# Altium schematic symbol library Connector.SchLib: 400 symbols (part 4 of 5)
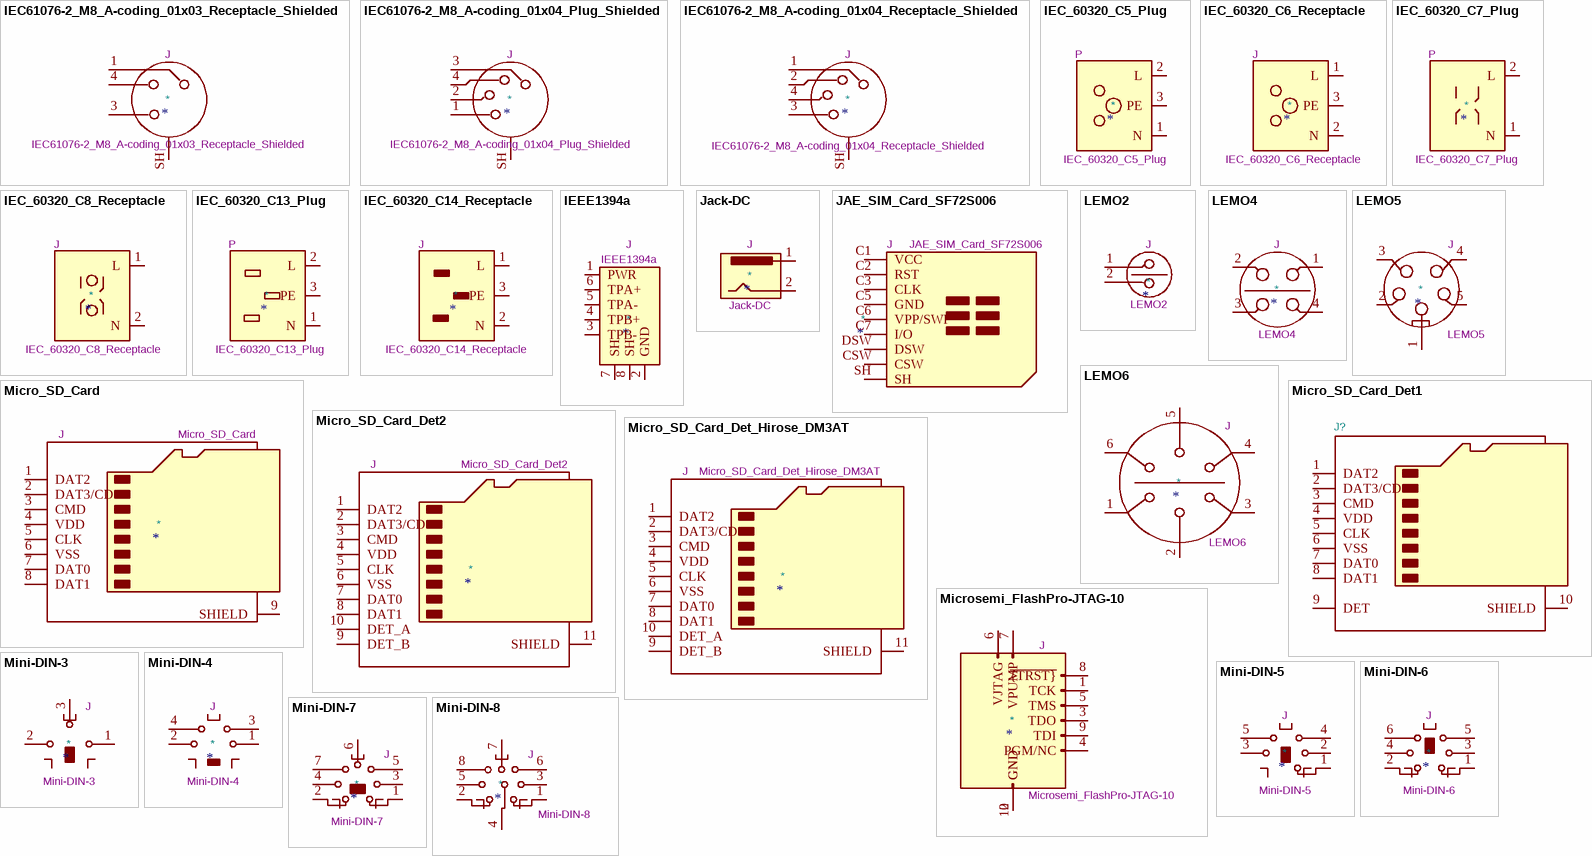
[diagram p20: symbols IEC61076-2_M8_A-coding_01x03_Receptacle_Shielded to Mini-DIN-8]

## Mini-DIN-3
designator *  value Mini-DIN-3  Reference: J
3-pin Mini-DIN connector; ki_fp_filters: MINI?DIN*; Datasheet: http://www.assmann-wsw.com/fileadmin/catalogue/10_MiniDIN_rev4-0.pdf; Description_: 3-pin Mini-DIN connector; ki_keywords: Mini-DIN
pins: 1, 2, 3

## Mini-DIN-4
designator *  value Mini-DIN-4  Reference: J
4-pin Mini-DIN connector; ki_fp_filters: MINI?DIN*; Datasheet: http://service.powerdynamics.com/ec/Catalog17/Section%2011.pdf; Description_: 4-pin Mini-DIN connector; ki_keywords: Mini-DIN
pins: 1, 2, 3, 4

## Mini-DIN-5
designator *  value Mini-DIN-5  Reference: J
5-pin Mini-DIN connector; ki_fp_filters: MINI?DIN*; Datasheet: http://service.powerdynamics.com/ec/Catalog17/Section%2011.pdf; Description_: 5-pin Mini-DIN connector; ki_keywords: Mini-DIN
pins: 1, 2, 3, 4, 5

## Mini-DIN-6
designator *  value Mini-DIN-6  Reference: J
6-pin Mini-DIN connector; ki_fp_filters: MINI?DIN*; Datasheet: http://service.powerdynamics.com/ec/Catalog17/Section%2011.pdf; Description_: 6-pin Mini-DIN connector; ki_keywords: Mini-DIN
pins: 1, 2, 3, 4, 5, 6

## Mini-DIN-7
designator *  value Mini-DIN-7  Reference: J
7-pin Mini-DIN connector; ki_fp_filters: MINI?DIN*; Datasheet: http://service.powerdynamics.com/ec/Catalog17/Section%2011.pdf; Description_: 7-pin Mini-DIN connector; ki_keywords: Mini-DIN
pins: 1, 2, 3, 4, 5, 6, 7

## Mini-DIN-8
designator *  value Mini-DIN-8  Reference: J
8-pin Mini-DIN connector; ki_fp_filters: MINI?DIN*; Datasheet: http://service.powerdynamics.com/ec/Catalog17/Section%2011.pdf; Description_: 8-pin Mini-DIN connector; ki_keywords: Mini-DIN
pins: 1, 2, 3, 4, 5, 6, 7, 8

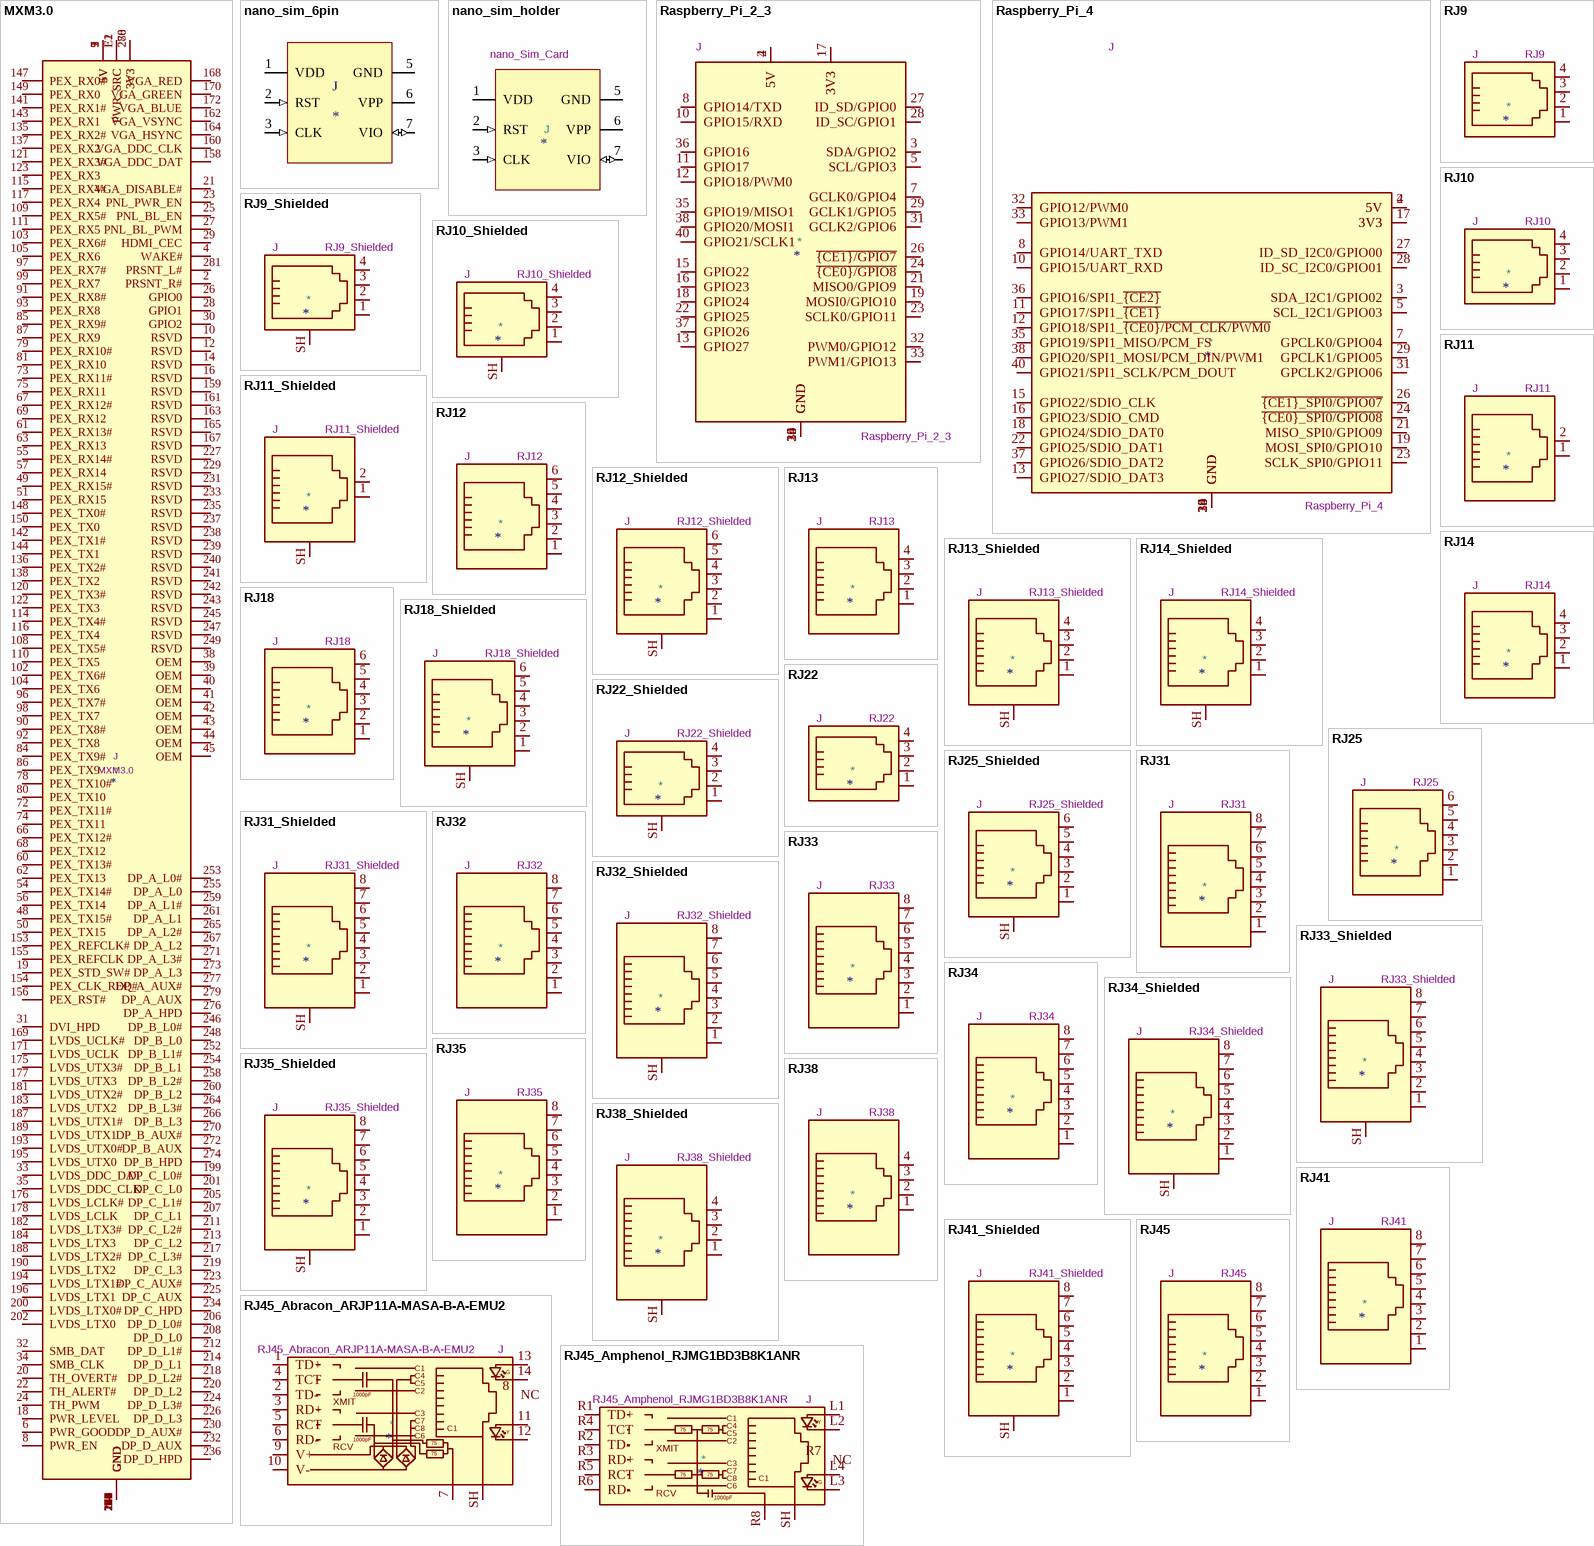
[diagram p12: symbols MXM3.0 to RJ45_Amphenol_RJMG1BD3B8K1ANR]

## MXM3.0
designator *  value MXM3.0  Reference: J
MXM3.0 connector; ki_keywords: MXM connector; ki_fp_filters: *MM70*; Datasheet: ~; Description_: MXM3.0 connector
pins: 1 5V, 2 PRSNT_R#, 3 5V, 4 WAKE#, 5 5V, 6 PWR_GOOD, 7 5V, 8 PWR_EN, 9 5V, 10 RSVD, 11 GND, 12 RSVD, 13 GND, 14 RSVD, 15 GND, 16 RSVD, 17 GND, 18 PWR_LEVEL, 19 PEX_STD_SW#, 20 TH_OVERT#, 21 VGA_DISABLE#, 22 TH_ALERT#, 23 PNL_PWR_EN, 24 TH_PWM, 25 PNL_BL_EN, 26 GPIO0, 27 PNL_BL_PWM, 28 GPIO1, 29 HDMI_CEC, 30 GPIO2, 31 DVI_HPD, 32 SMB_DAT, 33 LVDS_DDC_DAT, 34 SMB_CLK, 35 LVDS_DDC_CLK, 36 GND, 37 GND, 38 OEM, 39 OEM, 40 OEM, 41 OEM, 42 OEM, 43 OEM, 44 OEM, 45 OEM, 46 GND, 47 GND, 48 PEX_TX15#, 49 PEX_RX15#, 50 PEX_TX15, 51 PEX_RX15, 52 GND, 53 GND, 54 PEX_TX14#, 55 PEX_RX14#, 56 PEX_TX14, 57 PEX_RX14, 58 GND, 59 GND, 60 PEX_TX13#, 61 PEX_RX13#, 62 PEX_TX13, 63 PEX_RX13, 64 GND, 65 GND, 66 PEX_TX12#, 67 PEX_RX12#, 68 PEX_TX12, 69 PEX_RX12, 70 GND, 71 GND, 72 PEX_TX11#, 73 PEX_RX11#, 74 PEX_TX11, 75 PEX_RX11, 76 GND, 77 GND, 78 PEX_TX10#, 79 PEX_RX10#, 80 PEX_TX10, 81 PEX_RX10, 82 GND, 83 GND, 84 PEX_TX9#, 85 PEX_RX9#, 86 PEX_TX9, 87 PEX_RX9, 88 GND, 89 GND, 90 PEX_TX8#, 91 PEX_RX8#, 92 PEX_TX8, 93 PEX_RX8, 94 GND, 95 GND, 96 PEX_TX7#, 97 PEX_RX7#, 98 PEX_TX7, 99 PEX_RX7, 100 GND, 101 GND, 102 PEX_TX6#, 103 PEX_RX6#, 104 PEX_TX6, 105 PEX_RX6, 106 GND, 107 GND, 108 PEX_TX5#, 109 PEX_RX5#, 110 PEX_TX5, 111 PEX_RX5, 112 GND, 113 GND, 114 PEX_TX4#, 115 PEX_RX4#, 116 PEX_TX4, 117 PEX_RX4, 118 GND, 119 GND, 120 PEX_TX3#, 121 PEX_RX3#, 122 PEX_TX3, 123 PEX_RX3, 124 GND, 125 GND, 133 GND, 134 GND, 135 PEX_RX2#, 136 PEX_TX2#, 137 PEX_RX2, 138 PEX_TX2, 139 GND, 140 GND, 141 PEX_RX1#, 142 PEX_TX1#, 143 PEX_RX1, 144 PEX_TX1, 145 GND, 146 GND, 147 PEX_RX0#, 148 PEX_TX0#, 149 PEX_RX0, 150 PEX_TX0, 151 GND, 152 GND, 153 PEX_REFCLK#, 154 PEX_CLK_REQ#, 155 PEX_REFCLK, 156 PEX_RST#, 157 GND, 158 VGA_DDC_DAT, 159 RSVD, 160 VGA_DDC_CLK, 161 RSVD, 162 VGA_VSYNC, 163 RSVD, 164 VGA_HSYNC, 165 RSVD, 166 GND, 167 RSVD, 168 VGA_RED, 169 LVDS_UCLK#, 170 VGA_GREEN, 171 LVDS_UCLK, 172 VGA_BLUE, 173 GND, 174 GND, 175 LVDS_UTX3#, 176 LVDS_LCLK#, 177 LVDS_UTX3, 178 LVDS_LCLK, 179 GND, 180 GND, 181 LVDS_UTX2#, 182 LVDS_LTX3#, 183 LVDS_UTX2, 184 LVDS_LTX3, 185 GND, 186 GND, 187 LVDS_UTX1#, 188 LVDS_LTX2#, 189 LVDS_UTX1, 190 LVDS_LTX2, 191 GND, 192 GND, 193 LVDS_UTX0#, 194 LVDS_LTX1#, 195 LVDS_UTX0, 196 LVDS_LTX1, 197 GND, 198 GND, 199 DP_C_L0#, 200 LVDS_LTX0#, 201 DP_C_L0, 202 LVDS_LTX0, 203 GND, 204 GND, 205 DP_C_L1#, 206 DP_D_L0#, 207 DP_C_L1, 208 DP_D_L0, 209 GND, 210 GND, 211 DP_C_L2#, 212 DP_D_L1#, 213 DP_C_L2, 214 DP_D_L1, 215 GND, 216 GND, 217 DP_C_L3#, 218 DP_D_L2#, 219 DP_C_L3, 220 DP_D_L2, 221 GND, 222 GND, 223 DP_C_AUX#, 224 DP_D_L3#, 225 DP_C_AUX, 226 DP_D_L3, 227 RSVD, 228 GND, 229 RSVD, 230 DP_D_AUX#, 231 RSVD, 232 DP_D_AUX, 233 RSVD, 234 DP_C_HPD, 235 RSVD, 236 DP_D_HPD, 237 RSVD, 238 RSVD, 239 RSVD, 240 RSVD, 241 RSVD, 242 RSVD, 243 RSVD, 244 GND, 245 RSVD, 246 DP_B_L0#, 247 RSVD, 248 DP_B_L0, 249 RSVD, 250 GND, 251 GND, 252 DP_B_L1#, 253 DP_A_L0#, 254 DP_B_L1, 255 DP_A_L0, 256 GND, 257 GND, 258 DP_B_L2#, 259 DP_A_L1#, 260 DP_B_L2, 261 DP_A_L1, 262 GND, 263 GND, 264 DP_B_L3#, 265 DP_A_L2#, 266 DP_B_L3, 267 DP_A_L2, 268 GND, 269 GND, 270 DP_B_AUX#, 271 DP_A_L3#, 272 DP_B_AUX, 273 DP_A_L3, 274 DP_B_HPD, 275 GND, 276 DP_A_HPD, 277 DP_A_AUX#, 278 3V3, 279 DP_A_AUX, 280 3V3, 281 PRSNT_L#, E1 PWR_SRC, E2 PWR_SRC, E3 GND, E4 GND

## nano_sim_6pin
designator J
footprint Model Name (Footprint not found)
pins: 1 VDD (power), 2 RST (in), 3 CLK (in), 5 GND (power), 6 VPP, 7 VIO (io)

## nano_sim_holder
designator J  value nano_Sim_Card
nano sim Card Socket; Description_: Micro SD Card Socket; ki_keywords: connector SD microsd; ki_fp_filters: microSD*; Reference: J; Datasheet: https://www.we-online.com/components/products/datasheet/693072010801.pdf
footprint KLS1-SIM-076_NANO_Push
pins: 1 VDD (power), 2 RST (in), 3 CLK (in), 5 GND (power), 6 VPP, 7 VIO (io)

## Raspberry_Pi_2_3
designator *  value Raspberry_Pi_2_3  Reference: J
expansion header for Raspberry Pi 2 & 3; ki_keywords: raspberrypi gpio; ki_fp_filters: PinHeader*2x20*P2.54mm*Vertical* PinSocket*2x20*P2.54mm*Vertical*; Datasheet: https://www.raspberrypi.org/documentation/hardware/raspberrypi/schematics/rpi_SCH_3bplus_1p0_reduced.pdf; Description_: expansion header for Raspberry Pi 2 & 3
pins: 1 3V3, 2 5V, 3 SDA/GPIO2, 4 5V, 5 SCL/GPIO3, 6 GND, 7 GCLK0/GPIO4, 8 GPIO14/TXD, 9 GND, 10 GPIO15/RXD, 11 GPIO17, 12 GPIO18/PWM0, 13 GPIO27, 14 GND, 15 GPIO22, 16 GPIO23, 17 3V3, 18 GPIO24, 19 MOSI0/GPIO10, 20 GND, 21 MISO0/GPIO9, 22 GPIO25, 23 SCLK0/GPIO11, 24 ~{{CE0}/GPIO8}, 25 GND, 26 ~{{CE1}/GPIO7}, 27 ID_SD/GPIO0, 28 ID_SC/GPIO1, 29 GCLK1/GPIO5, 30 GND, 31 GCLK2/GPIO6, 32 PWM0/GPIO12, 33 PWM1/GPIO13, 34 GND, 35 GPIO19/MISO1, 36 GPIO16, 37 GPIO26, 38 GPIO20/MOSI1, 39 GND, 40 GPIO21/SCLK1

## Raspberry_Pi_4
designator *  value Raspberry_Pi_4  Reference: J
Raspberry Pi 4 Model B; ki_keywords: SBC RPi; ki_fp_filters: PinHeader*2x20*P2.54mm*Vertical* PinSocket*2x20*P2.54mm*Vertical*; Datasheet: https://datasheets.raspberrypi.com/rpi4/raspberry-pi-4-datasheet.pdf; Description_: Raspberry Pi 4 Model B
pins: 1 3V3, 2 5V, 3 SDA_I2C1/GPIO02, 4 5V, 5 SCL_I2C1/GPIO03, 6 GND, 7 GPCLK0/GPIO04, 8 GPIO14/UART_TXD, 9 GND, 10 GPIO15/UART_RXD, 11 GPIO17/SPI1_~{{CE1}}, 12 GPIO18/SPI1_~{{CE0}/PCM_CLK/PWM0}, 13 GPIO27/SDIO_DAT3, 14 GND, 15 GPIO22/SDIO_CLK, 16 GPIO23/SDIO_CMD, 17 3V3, 18 GPIO24/SDIO_DAT0, 19 MOSI_SPI0/GPIO10, 20 GND, 21 MISO_SPI0/GPIO09, 22 GPIO25/SDIO_DAT1, 23 SCLK_SPI0/GPIO11, 24 ~{{CE0}_SPI0/GPIO08}, 25 GND, 26 ~{{CE1}_SPI0/GPIO07}, 27 ID_SD_I2C0/GPIO00, 28 ID_SC_I2C0/GPIO01, 29 GPCLK1/GPIO05, 30 GND, 31 GPCLK2/GPIO06, 32 GPIO12/PWM0, 33 GPIO13/PWM1, 34 GND, 35 GPIO19/SPI1_MISO/PCM_FS, 36 GPIO16/SPI1_~{{CE2}}, 37 GPIO26/SDIO_DAT2, 38 GPIO20/SPI1_MOSI/PCM_DIN/PWM1, 39 GND, 40 GPIO21/SPI1_SCLK/PCM_DOUT

## RJ9
designator *  value RJ9  Reference: J
RJ connector, 4P4C (4 positions 4 connected); ki_keywords: 4P4C RJ socket connector; ki_fp_filters: 4P4C* RJ9* RJ10* RJ22*; Datasheet: ~; Description_: RJ connector, 4P4C (4 positions 4 connected)
pins: 1, 2, 3, 4

## RJ9_Shielded
designator *  value RJ9_Shielded  Reference: J
RJ connector, 4P4C (4 positions 4 connected), Shielded; ki_keywords: 4P4C RJ socket connector; ki_fp_filters: 4P4C* RJ9* RJ10* RJ22*; Datasheet: ~; Description_: RJ connector, 4P4C (4 positions 4 connected), Shielded
pins: 1, 2, 3, 4, SH

## RJ10
designator *  value RJ10  Reference: J
RJ connector, 4P4C (4 positions 4 connected); ki_keywords: 4P4C RJ socket connector; ki_fp_filters: 4P4C* RJ9* RJ10* RJ22*; Datasheet: ~; Description_: RJ connector, 4P4C (4 positions 4 connected)
pins: 1, 2, 3, 4

## RJ10_Shielded
designator *  value RJ10_Shielded  Reference: J
RJ connector, 4P4C (4 positions 4 connected), Shielded; ki_keywords: 4P4C RJ socket connector; ki_fp_filters: 4P4C* RJ9* RJ10* RJ22*; Datasheet: ~; Description_: RJ connector, 4P4C (4 positions 4 connected), Shielded
pins: 1, 2, 3, 4, SH

## RJ11
designator *  value RJ11  Reference: J
RJ connector, 6P2C (6 positions 2 connected); ki_keywords: 6P2C RJ socket connector; ki_fp_filters: 6P2C* RJ11*; Datasheet: ~; Description_: RJ connector, 6P2C (6 positions 2 connected)
pins: 1, 2

## RJ11_Shielded
designator *  value RJ11_Shielded  Reference: J
RJ connector, 6P2C (6 positions 2 connected), Shielded; ki_keywords: 6P2C RJ socket connector; ki_fp_filters: 6P2C* RJ11*; Datasheet: ~; Description_: RJ connector, 6P2C (6 positions 2 connected), Shielded
pins: 1, 2, SH

## RJ12
designator *  value RJ12  Reference: J
RJ connector, 6P6C (6 positions 6 connected); ki_keywords: 6P6C RJ socket connector; ki_fp_filters: 6P6C* RJ12* RJ18* RJ25*; Datasheet: ~; Description_: RJ connector, 6P6C (6 positions 6 connected)
pins: 1, 2, 3, 4, 5, 6

## RJ12_Shielded
designator *  value RJ12_Shielded  Reference: J
RJ connector, 6P6C (6 positions 6 connected), Shielded; ki_keywords: 6P6C RJ socket connector; ki_fp_filters: 6P6C* RJ12* RJ18* RJ25*; Datasheet: ~; Description_: RJ connector, 6P6C (6 positions 6 connected), Shielded
pins: 1, 2, 3, 4, 5, 6, SH

## RJ13
designator *  value RJ13  Reference: J
RJ connector, 6P4C (6 positions 4 connected); ki_keywords: 6P4C RJ socket connector; ki_fp_filters: 6P4C* RJ13* RJ14*; Datasheet: ~; Description_: RJ connector, 6P4C (6 positions 4 connected)
pins: 1, 2, 3, 4

## RJ13_Shielded
designator *  value RJ13_Shielded  Reference: J
RJ connector, 6P4C (6 positions 4 connected), Shielded; ki_keywords: 6P4C RJ socket connector; ki_fp_filters: 6P4C* RJ13* RJ14*; Datasheet: ~; Description_: RJ connector, 6P4C (6 positions 4 connected), Shielded
pins: 1, 2, 3, 4, SH

## RJ14
designator *  value RJ14  Reference: J
RJ connector, 6P4C (6 positions 4 connected); ki_keywords: 6P4C RJ socket connector; ki_fp_filters: 6P4C* RJ13* RJ14*; Datasheet: ~; Description_: RJ connector, 6P4C (6 positions 4 connected)
pins: 1, 2, 3, 4

## RJ14_Shielded
designator *  value RJ14_Shielded  Reference: J
RJ connector, 6P4C (6 positions 4 connected), Shielded; ki_keywords: 6P4C RJ socket connector; ki_fp_filters: 6P4C* RJ13* RJ14*; Datasheet: ~; Description_: RJ connector, 6P4C (6 positions 4 connected), Shielded
pins: 1, 2, 3, 4, SH

## RJ18
designator *  value RJ18  Reference: J
RJ connector, 6P6C (6 positions 6 connected); ki_keywords: 6P6C RJ socket connector; ki_fp_filters: 6P6C* RJ12* RJ18* RJ25*; Datasheet: ~; Description_: RJ connector, 6P6C (6 positions 6 connected)
pins: 1, 2, 3, 4, 5, 6

## RJ18_Shielded
designator *  value RJ18_Shielded  Reference: J
RJ connector, 6P6C (6 positions 6 connected), Shielded; ki_keywords: 6P6C RJ socket connector; ki_fp_filters: 6P6C* RJ12* RJ18* RJ25*; Datasheet: ~; Description_: RJ connector, 6P6C (6 positions 6 connected), Shielded
pins: 1, 2, 3, 4, 5, 6, SH

## RJ22
designator *  value RJ22  Reference: J
RJ connector, 4P4C (4 positions 4 connected); ki_keywords: 4P4C RJ socket connector; ki_fp_filters: 4P4C* RJ9* RJ10* RJ22*; Datasheet: ~; Description_: RJ connector, 4P4C (4 positions 4 connected)
pins: 1, 2, 3, 4

## RJ22_Shielded
designator *  value RJ22_Shielded  Reference: J
RJ connector, 4P4C (4 positions 4 connected), Shielded; ki_keywords: 4P4C RJ socket connector; ki_fp_filters: 4P4C* RJ9* RJ10* RJ22*; Datasheet: ~; Description_: RJ connector, 4P4C (4 positions 4 connected), Shielded
pins: 1, 2, 3, 4, SH

## RJ25
designator *  value RJ25  Reference: J
RJ connector, 6P6C (6 positions 6 connected); ki_keywords: 6P6C RJ socket connector; ki_fp_filters: 6P6C* RJ12* RJ18* RJ25*; Datasheet: ~; Description_: RJ connector, 6P6C (6 positions 6 connected)
pins: 1, 2, 3, 4, 5, 6

## RJ25_Shielded
designator *  value RJ25_Shielded  Reference: J
RJ connector, 6P6C (6 positions 6 connected), Shielded; ki_keywords: 6P6C RJ socket connector; ki_fp_filters: 6P6C* RJ12* RJ18* RJ25*; Datasheet: ~; Description_: RJ connector, 6P6C (6 positions 6 connected), Shielded
pins: 1, 2, 3, 4, 5, 6, SH

## RJ31
designator *  value RJ31  Reference: J
RJ connector, 8P8C (8 positions 8 connected); ki_keywords: 8P8C RJ socket connector; ki_fp_filters: 8P8C* RJ31* RJ32* RJ33* RJ34* RJ35* RJ41* RJ45* RJ49* RJ61*; Datasheet: ~; Description_: RJ connector, 8P8C (8 positions 8 connected)
pins: 1, 2, 3, 4, 5, 6, 7, 8

## RJ31_Shielded
designator *  value RJ31_Shielded  Reference: J
RJ connector, 8P8C (8 positions 8 connected), Shielded; ki_keywords: 8P8C RJ socket connector; ki_fp_filters: 8P8C* RJ31* RJ32* RJ33* RJ34* RJ35* RJ41* RJ45* RJ49* RJ61*; Datasheet: ~; Description_: RJ connector, 8P8C (8 positions 8 connected), Shielded
pins: 1, 2, 3, 4, 5, 6, 7, 8, SH

## RJ32
designator *  value RJ32  Reference: J
RJ connector, 8P8C (8 positions 8 connected); ki_keywords: 8P8C RJ socket connector; ki_fp_filters: 8P8C* RJ31* RJ32* RJ33* RJ34* RJ35* RJ41* RJ45* RJ49* RJ61*; Datasheet: ~; Description_: RJ connector, 8P8C (8 positions 8 connected)
pins: 1, 2, 3, 4, 5, 6, 7, 8

## RJ32_Shielded
designator *  value RJ32_Shielded  Reference: J
RJ connector, 8P8C (8 positions 8 connected), Shielded; ki_keywords: 8P8C RJ socket connector; ki_fp_filters: 8P8C* RJ31* RJ32* RJ33* RJ34* RJ35* RJ41* RJ45* RJ49* RJ61*; Datasheet: ~; Description_: RJ connector, 8P8C (8 positions 8 connected), Shielded
pins: 1, 2, 3, 4, 5, 6, 7, 8, SH

## RJ33
designator *  value RJ33  Reference: J
RJ connector, 8P8C (8 positions 8 connected); ki_keywords: 8P8C RJ socket connector; ki_fp_filters: 8P8C* RJ31* RJ32* RJ33* RJ34* RJ35* RJ41* RJ45* RJ49* RJ61*; Datasheet: ~; Description_: RJ connector, 8P8C (8 positions 8 connected)
pins: 1, 2, 3, 4, 5, 6, 7, 8

## RJ33_Shielded
designator *  value RJ33_Shielded  Reference: J
RJ connector, 8P8C (8 positions 8 connected), Shielded; ki_keywords: 8P8C RJ socket connector; ki_fp_filters: 8P8C* RJ31* RJ32* RJ33* RJ34* RJ35* RJ41* RJ45* RJ49* RJ61*; Datasheet: ~; Description_: RJ connector, 8P8C (8 positions 8 connected), Shielded
pins: 1, 2, 3, 4, 5, 6, 7, 8, SH

## RJ34
designator *  value RJ34  Reference: J
RJ connector, 8P8C (8 positions 8 connected); ki_keywords: 8P8C RJ socket connector; ki_fp_filters: 8P8C* RJ31* RJ32* RJ33* RJ34* RJ35* RJ41* RJ45* RJ49* RJ61*; Datasheet: ~; Description_: RJ connector, 8P8C (8 positions 8 connected)
pins: 1, 2, 3, 4, 5, 6, 7, 8

## RJ34_Shielded
designator *  value RJ34_Shielded  Reference: J
RJ connector, 8P8C (8 positions 8 connected), Shielded; ki_keywords: 8P8C RJ socket connector; ki_fp_filters: 8P8C* RJ31* RJ32* RJ33* RJ34* RJ35* RJ41* RJ45* RJ49* RJ61*; Datasheet: ~; Description_: RJ connector, 8P8C (8 positions 8 connected), Shielded
pins: 1, 2, 3, 4, 5, 6, 7, 8, SH

## RJ35
designator *  value RJ35  Reference: J
RJ connector, 8P8C (8 positions 8 connected); ki_keywords: 8P8C RJ socket connector; ki_fp_filters: 8P8C* RJ31* RJ32* RJ33* RJ34* RJ35* RJ41* RJ45* RJ49* RJ61*; Datasheet: ~; Description_: RJ connector, 8P8C (8 positions 8 connected)
pins: 1, 2, 3, 4, 5, 6, 7, 8

## RJ35_Shielded
designator *  value RJ35_Shielded  Reference: J
RJ connector, 8P8C (8 positions 8 connected), Shielded; ki_keywords: 8P8C RJ socket connector; ki_fp_filters: 8P8C* RJ31* RJ32* RJ33* RJ34* RJ35* RJ41* RJ45* RJ49* RJ61*; Datasheet: ~; Description_: RJ connector, 8P8C (8 positions 8 connected), Shielded
pins: 1, 2, 3, 4, 5, 6, 7, 8, SH

## RJ38
designator *  value RJ38  Reference: J
RJ connector, 8P4C (8 positions 4 connected); ki_keywords: 8P4C RJ socket connector; ki_fp_filters: 8P4C* RJ38* RJ48*; Datasheet: ~; Description_: RJ connector, 8P4C (8 positions 4 connected)
pins: 1, 2, 3, 4

## RJ38_Shielded
designator *  value RJ38_Shielded  Reference: J
RJ connector, 8P4C (8 positions 4 connected), Shielded; ki_keywords: 8P4C RJ socket connector; ki_fp_filters: 8P4C* RJ38* RJ48*; Datasheet: ~; Description_: RJ connector, 8P4C (8 positions 4 connected), Shielded
pins: 1, 2, 3, 4, SH

## RJ41
designator *  value RJ41  Reference: J
RJ connector, 8P8C (8 positions 8 connected); ki_keywords: 8P8C RJ socket connector; ki_fp_filters: 8P8C* RJ31* RJ32* RJ33* RJ34* RJ35* RJ41* RJ45* RJ49* RJ61*; Datasheet: ~; Description_: RJ connector, 8P8C (8 positions 8 connected)
pins: 1, 2, 3, 4, 5, 6, 7, 8

## RJ41_Shielded
designator *  value RJ41_Shielded  Reference: J
RJ connector, 8P8C (8 positions 8 connected), Shielded; ki_keywords: 8P8C RJ socket connector; ki_fp_filters: 8P8C* RJ31* RJ32* RJ33* RJ34* RJ35* RJ41* RJ45* RJ49* RJ61*; Datasheet: ~; Description_: RJ connector, 8P8C (8 positions 8 connected), Shielded
pins: 1, 2, 3, 4, 5, 6, 7, 8, SH

## RJ45
designator *  value RJ45  Reference: J
RJ connector, 8P8C (8 positions 8 connected); ki_keywords: 8P8C RJ socket connector; ki_fp_filters: 8P8C* RJ31* RJ32* RJ33* RJ34* RJ35* RJ41* RJ45* RJ49* RJ61*; Datasheet: ~; Description_: RJ connector, 8P8C (8 positions 8 connected)
pins: 1, 2, 3, 4, 5, 6, 7, 8

## RJ45_Abracon_ARJP11A-MASA-B-A-EMU2
designator *  value RJ45_Abracon_ARJP11A-MASA-B-A-EMU2  Reference: J
RJ45 PoE 10/100 Base-TX Jack with Magnetic Module; ki_keywords: single port ethernet transformer socket poe center-tap; ki_fp_filters: RJ45*Abracon*ARJP11A?MA*; Footprint: Connector_RJ:RJ45_Abracon_ARJP11A-MA_Horizontal; Datasheet: https://abracon.com/Magnetics/lan/ARJP11A.PDF; Description_: RJ45 PoE 10/100 Base-TX Jack with Magnetic Module
pins: 1 TD+, 2 TD-, 3 RD+, 4 TCT, 5 RCT, 6 RD-, 7, 8 NC, 9 V+, 10 V-, 11, 12, 13, 14, SH
text: C1; G; C5; C4; 1000pF; C2; XMIT; C3; C7; C8; Y; C6; 75; RCV

## RJ45_Amphenol_RJMG1BD3B8K1ANR
designator *  value RJ45_Amphenol_RJMG1BD3B8K1ANR  Reference: J
1 Port RJ45 Magjack Connector Through Hole 10/100 Base-T, AutoMDIX; ki_keywords: RJ45 Magjack Socket; ki_fp_filters: RJ45*Amphenol*RJMG1BD3B8K1ANR*; Footprint: Connector_RJ:RJ45_Amphenol_RJMG1BD3B8K1ANR; Datasheet: https://www.amphenol-cs.com/media/wysiwyg/files/drawing/rjmg1bd3b8k1anr.pdf; Description_: 1 Port RJ45 Magjack Connector Through Hole 10/100 Base-T, AutoMDIX
pins: L1, L2, L3, L4, R1 TD+, R2 TD-, R3 RD+, R4 TCT, R5 RCT, R6 RD-, R7 NC, R8, SH
text: C1; Y; 75; C4; C5; XMIT; C2; C3; C7; C8; G; RCV; C6; 1000pF

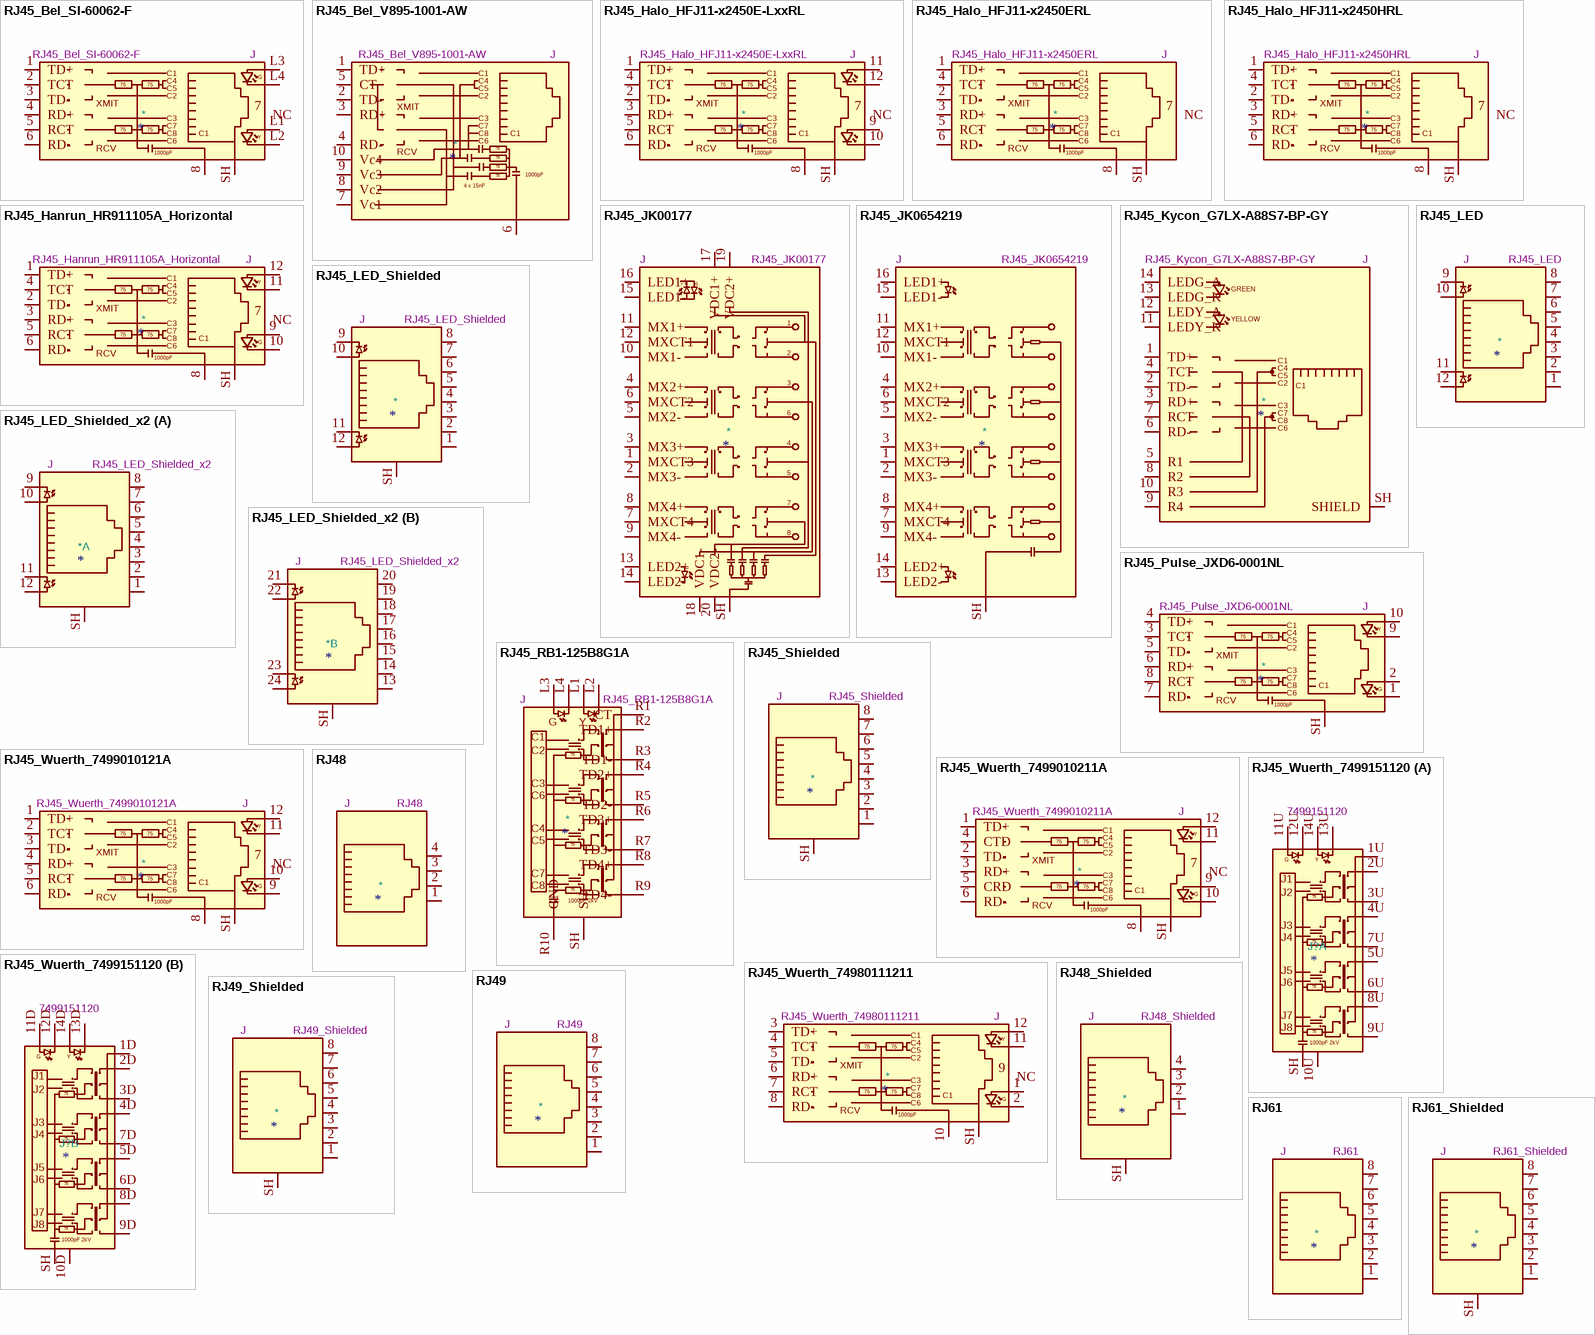
[diagram p13: symbols RJ45_Bel_SI-60062-F to RJ61_Shielded]

## RJ45_Bel_SI-60062-F
designator *  value RJ45_Bel_SI-60062-F  Reference: J
1 Port RJ45 Magjack Connector Through Hole 10/100 Base-T, AutoMDIX; ki_keywords: RJ45 Magjack Socket; ki_fp_filters: RJ45*Bel*SI*60062*F*; Footprint: Connector_RJ:RJ45_Bel_SI-60062-F; Datasheet: https://belfuse.com/resources/drawings/magneticsolutions/dr-mag-si-60062-f.pdf; Description_: 1 Port RJ45 Magjack Connector Through Hole 10/100 Base-T, AutoMDIX
pins: 1 TD+, 2 TCT, 3 TD-, 4 RD+, 5 RCT, 6 RD-, 7 NC, 8, L1, L2, L3, L4, SH
text: C1; G; 75; C4; C5; XMIT; C2; C3; C7; C8; Y; RCV; C6; 1000pF

## RJ45_Bel_V895-1001-AW
designator *  value RJ45_Bel_V895-1001-AW  Reference: J
RJ45 PoE 10/100 Base-TX Jack with Magnetic Module; ki_keywords: single port ethernet transformer socket poe center-tap; ki_fp_filters: RJ45*Bel*V895*1001*AW*; Footprint: Connector_RJ:RJ45_Bel_V895-1001-AW_Vertical; Datasheet: https://www.belfuse.com/resources/drawings/magneticsolutions/dr-mag-v895-1001-aw.pdf; Description_: RJ45 PoE 10/100 Base-TX Jack with Magnetic Module
pins: 1 TD+, 2 TD-, 3 RD+, 4 RD-, 5 CT, 6, 7 Vc1, 8 Vc2, 9 Vc3, 10 Vc4
text: C1; C5; C4; C2; XMIT; C3; C8; C7; C6; RCV; 75; 1000pF; 4 x 15nF

## RJ45_Halo_HFJ11-x2450E-LxxRL
designator *  value RJ45_Halo_HFJ11-x2450E-LxxRL  Reference: J
Halo HFJ11, 10/100 Base-TX, two LEDs, RJ45, Shielded; ki_keywords: FastJack socket; ki_fp_filters: RJ45*HALO*HFJ11*x2450E*LxxRL*; Footprint: Connector_RJ:RJ45_HALO_HFJ11-x2450E-LxxRL_Horizontal; Datasheet: https://www.haloelectronics.com/pdf/fastjack-100baset.pdf; Description_: Halo HFJ11, 10/100 Base-TX, two LEDs, RJ45, Shielded
pins: 1 TD+, 2 TD-, 3 RD+, 4 TCT, 5 RCT, 6 RD-, 7 NC, 8, 9, 10, 11, 12, SH
text: C1; 75; C4; C5; XMIT; C2; C3; C7; C8; RCV; C6; 1000pF

## RJ45_Halo_HFJ11-x2450ERL
designator *  value RJ45_Halo_HFJ11-x2450ERL  Reference: J
Halo HFJ11, 10/100 Base-TX, no LED, RJ45, Shielded; ki_keywords: FastJack socket; ki_fp_filters: RJ45*HALO*HFJ11*x2450ERL*; Footprint: Connector_RJ:RJ45_HALO_HFJ11-x2450ERL_Horizontal; Datasheet: https://www.haloelectronics.com/pdf/fastjack-100baset.pdf; Description_: Halo HFJ11, 10/100 Base-TX, no LED, RJ45, Shielded
pins: 1 TD+, 2 TD-, 3 RD+, 4 TCT, 5 RCT, 6 RD-, 7 NC, 8, SH
text: C1; 75; C4; C5; XMIT; C2; C3; C7; C8; RCV; C6; 1000pF

## RJ45_Halo_HFJ11-x2450HRL
designator *  value RJ45_Halo_HFJ11-x2450HRL  Reference: J
Halo HFJ11, 10/100 Base-TX, no LED, RJ45, Shielded; ki_keywords: FastJack socket; ki_fp_filters: RJ45*HALO*HFJ11*x2450HRL*; Footprint: Connector_RJ:RJ45_HALO_HFJ11-x2450HRL_Horizontal; Datasheet: https://www.haloelectronics.com/pdf/fastjack-100baset.pdf; Description_: Halo HFJ11, 10/100 Base-TX, no LED, RJ45, Shielded
pins: 1 TD+, 2 TD-, 3 RD+, 4 TCT, 5 RCT, 6 RD-, 7 NC, 8, SH
text: C1; 75; C4; C5; XMIT; C2; C3; C7; C8; RCV; C6; 1000pF

## RJ45_Hanrun_HR911105A_Horizontal
designator *  value RJ45_Hanrun_HR911105A_Horizontal  Reference: J
1 Port RJ45 Magjack Connector Through Hole 10/100 Base-T, AutoMDIX; ki_keywords: RJ45 Magjack Socket; ki_fp_filters: RJ45*Hanrun*HR911105A*; Footprint: Connector_RJ:RJ45_Hanrun_HR911105A_Horizontal; Datasheet: https://datasheet.lcsc.com/lcsc/1811141815_HANRUN-Zhongshan-HanRun-Elec-HR911105A_C12074.pdf; Description_: 1 Port RJ45 Magjack Connector Through Hole 10/100 Base-T, AutoMDIX
pins: 1 TD+, 2 TD-, 3 RD+, 4 TCT, 5 RCT, 6 RD-, 7 NC, 8, 9, 10, 11, 12, SH
text: C1; Y; 75; C4; C5; XMIT; C2; C3; C7; C8; G; RCV; C6; 1000pF

## RJ45_JK00177
designator *  value RJ45_JK00177  Reference: J
1 Port RJ45 Magjack Connector Through Hole 10/100/1000 Base-T, AutoMDIX, 75W POE; ki_keywords: 8P8C RJ socket jack connector POE; ki_fp_filters: RJ45*Pulse*JK00177NL*; Footprint: Connector_RJ:RJ45_Pulse_JK00177NL_Horizontal; Datasheet: https://productfinder.pulseeng.com/doc_type/WEB301/doc_num/J432/doc_part/J432.pdf; Description_: 1 Port RJ45 Magjack Connector Through Hole 10/100/1000 Base-T, AutoMDIX, 75W POE
pins: 1 MXCT3, 2 MX3-, 3 MX3+, 4 MX2+, 5 MX2-, 6 MXCT2, 7 MXCT4, 8 MX4+, 9 MX4-, 10 MX1-, 11 MX1+, 12 MXCT1, 13 LED2+, 14 LED2-, 15 LED1-, 16 LED1+, 17 VDC1+, 18 VDC1-, 19 VDC2+, 20 VDC2-, SH
text: Y; G

## RJ45_JK0654219
designator *  value RJ45_JK0654219  Reference: J
1 Port RJ45 Magjack Connector Through Hole 10/100/1000 Base-T, AutoMDIX; ki_keywords: 8P8C RJ socket jack connector; ki_fp_filters: RJ45*Pulse*JK0654219NL*; Footprint: Connector_RJ:RJ45_Pulse_JK0654219NL_Horizontal; Datasheet: https://media.digikey.com/pdf/Data%20Sheets/Pulse%20PDFs/JK%20Series.pdf; Description_: 1 Port RJ45 Magjack Connector Through Hole 10/100/1000 Base-T, AutoMDIX
pins: 1 MXCT3, 2 MX3-, 3 MX3+, 4 MX2+, 5 MX2-, 6 MXCT2, 7 MXCT4, 8 MX4+, 9 MX4-, 10 MX1-, 11 MX1+, 12 MXCT1, 13 LED2-, 14 LED2+, 15 LED1-, 16 LED1+, SH

## RJ45_Kycon_G7LX-A88S7-BP-GY
designator *  value RJ45_Kycon_G7LX-A88S7-BP-GY  Reference: J
1 Port RJ45 Magjack Connector Through Hole 10/100 Base-T, AutoMDIX; ki_fp_filters: RJ45*Kycon*G7LX*A88S7*BP*Horizontal*; Footprint: Connector_RJ:RJ45_Kycon_G7LX-A88S7-BP-xx_Horizontal; Datasheet: http://www.kycon.com/Pub_Eng_Draw/G7LX-A88S7-BP-GY.pdf; Description_: 1 Port RJ45 Magjack Connector Through Hole 10/100 Base-T, AutoMDIX; ki_keywords: RJ45 Magjack
pins: 1 TD+, 2 TD-, 3 RD+, 4 TCT, 5 R1, 6 RD-, 7 RCT, 8 R2, 9 R4, 10 R3, 11 LEDY_K, 12 LEDY_A, 13 LEDG_K, 14 LEDG_A, SH SHIELD
text: GREEN; YELLOW; C1; C4; C5; C2; C3; C7; C8; C6

## RJ45_LED
designator *  value RJ45_LED  Reference: J
RJ connector, 8P8C (8 positions 8 connected), two LEDs; ki_keywords: 8P8C RJ socket jack connector led; ki_fp_filters: 8P8C* RJ45*; Datasheet: ~; Description_: RJ connector, 8P8C (8 positions 8 connected), two LEDs
pins: 1, 2, 3, 4, 5, 6, 7, 8, 9, 10, 11, 12

## RJ45_LED_Shielded
designator *  value RJ45_LED_Shielded  Reference: J
RJ connector, 8P8C (8 positions 8 connected), two LEDs, Shielded; ki_keywords: 8P8C RJ socket jack connector led; ki_fp_filters: 8P8C* RJ45*; Datasheet: ~; Description_: RJ connector, 8P8C (8 positions 8 connected), two LEDs, Shielded
pins: 1, 2, 3, 4, 5, 6, 7, 8, 9, 10, 11, 12, SH

## RJ45_LED_Shielded_x2
designator *  value RJ45_LED_Shielded_x2  Reference: J
RJ connector, 8P8C (8 positions 8 connected), two LEDs, Shielded, two ports; ki_keywords: 8P8C RJ socket jack connector led; ki_fp_filters: 8P8C*02* RJ45*02*; Datasheet: ~; Description_: RJ connector, 8P8C (8 positions 8 connected), two LEDs, Shielded, two ports
part A pins: 1, 2, 3, 4, 5, 6, 7, 8, 9, 10, 11, 12, SH
part B pins: 13, 14, 15, 16, 17, 18, 19, 20, 21, 22, 23, 24, SH

## RJ45_Pulse_JXD6-0001NL
designator *  value RJ45_Pulse_JXD6-0001NL  Reference: J
LAN Transformer Jack, RJ45, 10/100 BaseT; ki_keywords: lan jack socket transformer; ki_fp_filters: RJ45*Pulse*JXD6?0001NL*; Footprint: Connector_RJ:RJ45_Pulse_JXD6-0001NL_Horizontal; Datasheet: https://productfinder.pulseeng.com/doc_type/WEB301/doc_num/JXD6-0001NL/doc_part/JXD6-0001NL.pdf; Description_: LAN Transformer Jack, RJ45, 10/100 BaseT
pins: 1, 2, 3 TCT, 4 TD+, 5 TD-, 6 RD+, 7 RD-, 8 RCT, 9, 10, SH
text: C1; Y; 75; C4; C5; XMIT; C2; C3; C7; C8; G; RCV; C6; 1000pF

## RJ45_RB1-125B8G1A
designator *  value RJ45_RB1-125B8G1A  Reference: J
LAN Transformer Jack, RJ45, 10/100/1000 BaseT; ki_keywords: lan jack socket transformer ethernet gigabit 10 100 1000 baset; ki_fp_filters: RJ45*UDE*RB1*125B8G1A*; Footprint: Connector_RJ:RJ45_UDE_RB1-125B8G1A; Datasheet: https://datasheet.lcsc.com/szlcsc/1901091107_UDE-Corp-RB1-125B8G1A_C363353.pdf; Description_: LAN Transformer Jack, RJ45, 10/100/1000 BaseT
pins: L1, L2, L3, L4, R1 CT, R2 TD1+, R3 TD1-, R4 TD2+, R5 TD2-, R6 TD3+, R7 TD3-, R8 TD4+, R9 TD4-, R10 GND, SH
text: G; Y; C1; C2; 75; C3; C6; C4; C5; C7; C8; 1000pF 2kV

## RJ45_Shielded
designator *  value RJ45_Shielded  Reference: J
RJ connector, 8P8C (8 positions 8 connected), Shielded; ki_keywords: 8P8C RJ jack socket connector; ki_fp_filters: 8P8C* RJ31* RJ32* RJ33* RJ34* RJ35* RJ41* RJ45* RJ49* RJ61*; Datasheet: ~; Description_: RJ connector, 8P8C (8 positions 8 connected), Shielded
pins: 1, 2, 3, 4, 5, 6, 7, 8, SH

## RJ45_Wuerth_7499010121A
designator *  value RJ45_Wuerth_7499010121A  Reference: J
LAN Transformer Jack, RJ45, 10/100 BaseT; ki_keywords: lan jack socket transformer; ki_fp_filters: RJ45*Wuerth*7499010121A*; Footprint: Connector_RJ:RJ45_Wuerth_7499010121A_Horizontal; Datasheet: http://katalog.we-online.de/pbs/datasheet/7499010121A.pdf; Description_: LAN Transformer Jack, RJ45, 10/100 BaseT
pins: 1 TD+, 2 TCT, 3 TD-, 4 RD+, 5 RCT, 6 RD-, 7 NC, 8, 9, 10, 11, 12, SH
text: C1; Y; 75; C4; C5; XMIT; C2; C3; C7; C8; G; RCV; C6; 1000pF

## RJ45_Wuerth_7499010211A
designator *  value RJ45_Wuerth_7499010211A  Reference: J
LAN Transformer Jack, RJ45, 10/100 BaseT, tab down; ki_keywords: magjack socket ethernet; ki_fp_filters: RJ45*Wuerth*7499010211A*; Footprint: Connector_RJ:RJ45_Wuerth_7499010211A_Horizontal; Datasheet: https://www.we-online.com/components/products/datasheet/7499010211A.pdf; Description_: LAN Transformer Jack, RJ45, 10/100 BaseT, tab down
pins: 1 TD+, 2 TD-, 3 RD+, 4 CTD, 5 CRD, 6 RD-, 7 NC, 8, 9, 10, 11, 12, SH
text: C1; Y; 75; C4; C5; XMIT; C2; C3; C7; C8; G; RCV; C6; 1000pF

## RJ45_Wuerth_7499151120
designator J?  value 7499151120
Dual LAN Transformer Jack, RJ45, 10/100/1000 BaseT; Manufacturer: Wurth Elektronik; Manufacturer Lifecycle Status: ACTIVE; ki_keywords: dual lan jack socket transformer; ki_fp_filters: RJ45*Wuerth*7499151120*; Direction: Up and Down; Gender: Female; Insertion Loss (dB): -1.1dB; Number of Contacts: 8; Number of Ports: 2; Pitch: 2.54mm; Shielding: Shielded; YEOL: 1 = Estimated lifetime > 10 years; Reference: J; DNP: P; Footprint: Connector_RJ:RJ45_Wuerth_7499151120_Horizontal; Datasheet: http://katalog.we-online.de/pbs/datasheet/7499151120.pdf; Description_: Dual LAN Transformer Jack, RJ45, 10/100/1000 BaseT; Category: Modular / Ethernet Connectors; Color: Green, Yellow; Connector Type: RJ45; Contact Material: Ferrite; Contact Plating: Gold; Depth: 28.5mm; Flammability Rating: UL94 V-0; Height: 25mm; Housing Material: Thermoplastic; Length: 28mm; Lifecycle Status: Production; Manufacturer Part Number: 7499151120; Max Operating Temperature: 85°C; Min Operating Temperature: -40°C; Mounting Technology: Through Hole; Number of Cores per Jack: 8; Number of Positions: 8; Number of Positions Loaded: 8; Number of Rows: 2; Orientation: Right Angle; REACH SVHC: Unknown; RoHS: Compliant; Termination: Through Hole; Width: 17mm; Supplier 1: Mouser; Supplier Part Number 1: 710-7499151120; Supplier Packaging 1: Tube; Supplier Unit Price 1: $15.64; Supplier Location 1: US
footprint RJ45_Wuerth_7499151120_Horizontal
part A pins: 1U, 2U, 3U, 4U, 5U, 6U, 7U, 8U, 9U, 10U, 11U, 12U, 13U, 14U, SH
part B pins: 1D, 2D, 3D, 4D, 5D, 6D, 7D, 8D, 9D, 10D, 11D, 12D, 13D, 14D, SH
part A text: G; Y; J1; J2; 75; J3; J4; J5; J6; J7; J8; 1000pF 2kV
part B text: G; Y; J1; J2; 75; J3; J4; J5; J6; J7; J8; 1000pF 2kV

## RJ45_Wuerth_74980111211
designator *  value RJ45_Wuerth_74980111211  Reference: J
LAN Transformer Jack, RJ45, 10/100 BaseT; ki_keywords: lan jack socket transformer smt; ki_fp_filters: RJ45*Wuerth*74980111211*; Footprint: Connector_RJ:RJ45_Wuerth_74980111211_Horizontal; Datasheet: https://www.we-online.de/katalog/datasheet/74980111211.pdf; Description_: LAN Transformer Jack, RJ45, 10/100 BaseT
pins: 1, 2, 3 TD+, 4 TCT, 5 TD-, 6 RD+, 7 RCT, 8 RD-, 9 NC, 10, 11, 12, SH
text: C1; Y; 75; C4; C5; XMIT; C2; C3; C7; C8; G; RCV; C6; 1000pF

## RJ48
designator *  value RJ48  Reference: J
RJ connector, 8P4C (8 positions 4 connected); ki_keywords: 8P4C RJ socket connector; ki_fp_filters: 8P4C* RJ38* RJ48*; Datasheet: ~; Description_: RJ connector, 8P4C (8 positions 4 connected)
pins: 1, 2, 3, 4

## RJ48_Shielded
designator *  value RJ48_Shielded  Reference: J
RJ connector, 8P4C (8 positions 4 connected), Shielded; ki_keywords: 8P4C RJ socket connector; ki_fp_filters: 8P4C* RJ38* RJ48*; Datasheet: ~; Description_: RJ connector, 8P4C (8 positions 4 connected), Shielded
pins: 1, 2, 3, 4, SH

## RJ49
designator *  value RJ49  Reference: J
RJ connector, 8P8C (8 positions 8 connected); ki_keywords: 8P8C RJ socket connector; ki_fp_filters: 8P8C* RJ31* RJ32* RJ33* RJ34* RJ35* RJ41* RJ45* RJ49* RJ61*; Datasheet: ~; Description_: RJ connector, 8P8C (8 positions 8 connected)
pins: 1, 2, 3, 4, 5, 6, 7, 8

## RJ49_Shielded
designator *  value RJ49_Shielded  Reference: J
RJ connector, 8P8C (8 positions 8 connected), Shielded; ki_keywords: 8P8C RJ socket connector; ki_fp_filters: 8P8C* RJ31* RJ32* RJ33* RJ34* RJ35* RJ41* RJ45* RJ49* RJ61*; Datasheet: ~; Description_: RJ connector, 8P8C (8 positions 8 connected), Shielded
pins: 1, 2, 3, 4, 5, 6, 7, 8, SH

## RJ61
designator *  value RJ61  Reference: J
RJ connector, 8P8C (8 positions 8 connected); ki_keywords: 8P8C RJ socket connector; ki_fp_filters: 8P8C* RJ31* RJ32* RJ33* RJ34* RJ35* RJ41* RJ45* RJ49* RJ61*; Datasheet: ~; Description_: RJ connector, 8P8C (8 positions 8 connected)
pins: 1, 2, 3, 4, 5, 6, 7, 8

## RJ61_Shielded
designator *  value RJ61_Shielded  Reference: J
RJ connector, 8P8C (8 positions 8 connected), Shielded; ki_keywords: 8P8C RJ socket connector; ki_fp_filters: 8P8C* RJ31* RJ32* RJ33* RJ34* RJ35* RJ41* RJ45* RJ49* RJ61*; Datasheet: ~; Description_: RJ connector, 8P8C (8 positions 8 connected), Shielded
pins: 1, 2, 3, 4, 5, 6, 7, 8, SH

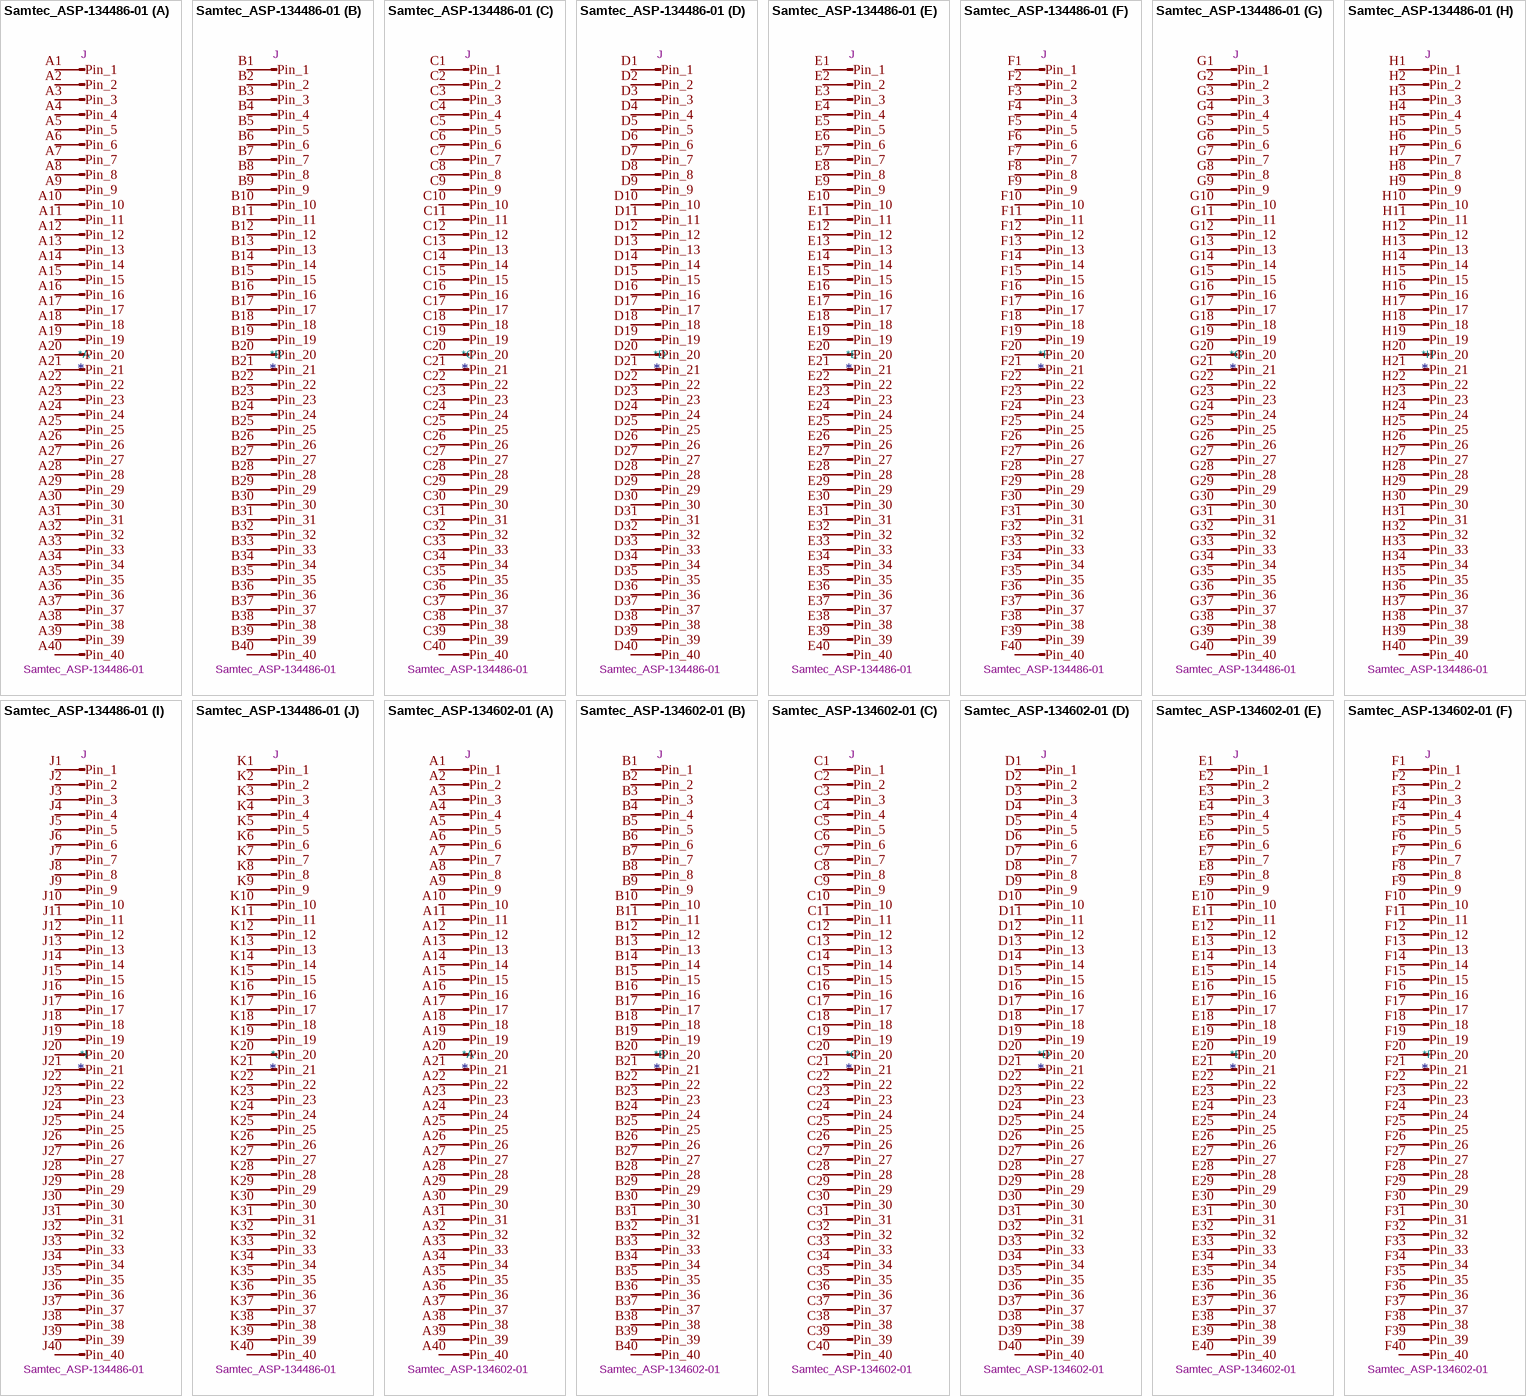
[diagram p14: symbols Samtec_ASP-134486-01 to Samtec_ASP-134602-01]

## Samtec_ASP-134486-01
designator *  value Samtec_ASP-134486-01  Reference: J
Connector array, 10x40, 1.27mm pitch, carrier-card, receptacle, gold finish, VITA 57.1 FMC, SMD; ki_keywords: FPGA Mezzanine Card FMC Terminal Connector Header; ki_fp_filters: *FMC*ASP*134602?01*10x40*P1.27mm* *FMC*ASP*134486?01*10x40*P1.27mm*; Datasheet: http://suddendocs.samtec.com/prints/asp-134486-01-mkt.pdf; Description_: Connector array, 10x40, 1.27mm pitch, carrier-card, receptacle, gold finish, VITA 57.1 FMC, SMD
part A pins: A1 Pin_1, A2 Pin_2, A3 Pin_3, A4 Pin_4, A5 Pin_5, A6 Pin_6, A7 Pin_7, A8 Pin_8, A9 Pin_9, A10 Pin_10, A11 Pin_11, A12 Pin_12, A13 Pin_13, A14 Pin_14, A15 Pin_15, A16 Pin_16, A17 Pin_17, A18 Pin_18, A19 Pin_19, A20 Pin_20, A21 Pin_21, A22 Pin_22, A23 Pin_23, A24 Pin_24, A25 Pin_25, A26 Pin_26, A27 Pin_27, A28 Pin_28, A29 Pin_29, A30 Pin_30, A31 Pin_31, A32 Pin_32, A33 Pin_33, A34 Pin_34, A35 Pin_35, A36 Pin_36, A37 Pin_37, A38 Pin_38, A39 Pin_39, A40 Pin_40
part B pins: B1 Pin_1, B2 Pin_2, B3 Pin_3, B4 Pin_4, B5 Pin_5, B6 Pin_6, B7 Pin_7, B8 Pin_8, B9 Pin_9, B10 Pin_10, B11 Pin_11, B12 Pin_12, B13 Pin_13, B14 Pin_14, B15 Pin_15, B16 Pin_16, B17 Pin_17, B18 Pin_18, B19 Pin_19, B20 Pin_20, B21 Pin_21, B22 Pin_22, B23 Pin_23, B24 Pin_24, B25 Pin_25, B26 Pin_26, B27 Pin_27, B28 Pin_28, B29 Pin_29, B30 Pin_30, B31 Pin_31, B32 Pin_32, B33 Pin_33, B34 Pin_34, B35 Pin_35, B36 Pin_36, B37 Pin_37, B38 Pin_38, B39 Pin_39, B40 Pin_40
part C pins: C1 Pin_1, C2 Pin_2, C3 Pin_3, C4 Pin_4, C5 Pin_5, C6 Pin_6, C7 Pin_7, C8 Pin_8, C9 Pin_9, C10 Pin_10, C11 Pin_11, C12 Pin_12, C13 Pin_13, C14 Pin_14, C15 Pin_15, C16 Pin_16, C17 Pin_17, C18 Pin_18, C19 Pin_19, C20 Pin_20, C21 Pin_21, C22 Pin_22, C23 Pin_23, C24 Pin_24, C25 Pin_25, C26 Pin_26, C27 Pin_27, C28 Pin_28, C29 Pin_29, C30 Pin_30, C31 Pin_31, C32 Pin_32, C33 Pin_33, C34 Pin_34, C35 Pin_35, C36 Pin_36, C37 Pin_37, C38 Pin_38, C39 Pin_39, C40 Pin_40
part D pins: D1 Pin_1, D2 Pin_2, D3 Pin_3, D4 Pin_4, D5 Pin_5, D6 Pin_6, D7 Pin_7, D8 Pin_8, D9 Pin_9, D10 Pin_10, D11 Pin_11, D12 Pin_12, D13 Pin_13, D14 Pin_14, D15 Pin_15, D16 Pin_16, D17 Pin_17, D18 Pin_18, D19 Pin_19, D20 Pin_20, D21 Pin_21, D22 Pin_22, D23 Pin_23, D24 Pin_24, D25 Pin_25, D26 Pin_26, D27 Pin_27, D28 Pin_28, D29 Pin_29, D30 Pin_30, D31 Pin_31, D32 Pin_32, D33 Pin_33, D34 Pin_34, D35 Pin_35, D36 Pin_36, D37 Pin_37, D38 Pin_38, D39 Pin_39, D40 Pin_40
part E pins: E1 Pin_1, E2 Pin_2, E3 Pin_3, E4 Pin_4, E5 Pin_5, E6 Pin_6, E7 Pin_7, E8 Pin_8, E9 Pin_9, E10 Pin_10, E11 Pin_11, E12 Pin_12, E13 Pin_13, E14 Pin_14, E15 Pin_15, E16 Pin_16, E17 Pin_17, E18 Pin_18, E19 Pin_19, E20 Pin_20, E21 Pin_21, E22 Pin_22, E23 Pin_23, E24 Pin_24, E25 Pin_25, E26 Pin_26, E27 Pin_27, E28 Pin_28, E29 Pin_29, E30 Pin_30, E31 Pin_31, E32 Pin_32, E33 Pin_33, E34 Pin_34, E35 Pin_35, E36 Pin_36, E37 Pin_37, E38 Pin_38, E39 Pin_39, E40 Pin_40
part F pins: F1 Pin_1, F2 Pin_2, F3 Pin_3, F4 Pin_4, F5 Pin_5, F6 Pin_6, F7 Pin_7, F8 Pin_8, F9 Pin_9, F10 Pin_10, F11 Pin_11, F12 Pin_12, F13 Pin_13, F14 Pin_14, F15 Pin_15, F16 Pin_16, F17 Pin_17, F18 Pin_18, F19 Pin_19, F20 Pin_20, F21 Pin_21, F22 Pin_22, F23 Pin_23, F24 Pin_24, F25 Pin_25, F26 Pin_26, F27 Pin_27, F28 Pin_28, F29 Pin_29, F30 Pin_30, F31 Pin_31, F32 Pin_32, F33 Pin_33, F34 Pin_34, F35 Pin_35, F36 Pin_36, F37 Pin_37, F38 Pin_38, F39 Pin_39, F40 Pin_40
part G pins: G1 Pin_1, G2 Pin_2, G3 Pin_3, G4 Pin_4, G5 Pin_5, G6 Pin_6, G7 Pin_7, G8 Pin_8, G9 Pin_9, G10 Pin_10, G11 Pin_11, G12 Pin_12, G13 Pin_13, G14 Pin_14, G15 Pin_15, G16 Pin_16, G17 Pin_17, G18 Pin_18, G19 Pin_19, G20 Pin_20, G21 Pin_21, G22 Pin_22, G23 Pin_23, G24 Pin_24, G25 Pin_25, G26 Pin_26, G27 Pin_27, G28 Pin_28, G29 Pin_29, G30 Pin_30, G31 Pin_31, G32 Pin_32, G33 Pin_33, G34 Pin_34, G35 Pin_35, G36 Pin_36, G37 Pin_37, G38 Pin_38, G39 Pin_39, G40 Pin_40
part H pins: H1 Pin_1, H2 Pin_2, H3 Pin_3, H4 Pin_4, H5 Pin_5, H6 Pin_6, H7 Pin_7, H8 Pin_8, H9 Pin_9, H10 Pin_10, H11 Pin_11, H12 Pin_12, H13 Pin_13, H14 Pin_14, H15 Pin_15, H16 Pin_16, H17 Pin_17, H18 Pin_18, H19 Pin_19, H20 Pin_20, H21 Pin_21, H22 Pin_22, H23 Pin_23, H24 Pin_24, H25 Pin_25, H26 Pin_26, H27 Pin_27, H28 Pin_28, H29 Pin_29, H30 Pin_30, H31 Pin_31, H32 Pin_32, H33 Pin_33, H34 Pin_34, H35 Pin_35, H36 Pin_36, H37 Pin_37, H38 Pin_38, H39 Pin_39, H40 Pin_40
part I pins: J1 Pin_1, J2 Pin_2, J3 Pin_3, J4 Pin_4, J5 Pin_5, J6 Pin_6, J7 Pin_7, J8 Pin_8, J9 Pin_9, J10 Pin_10, J11 Pin_11, J12 Pin_12, J13 Pin_13, J14 Pin_14, J15 Pin_15, J16 Pin_16, J17 Pin_17, J18 Pin_18, J19 Pin_19, J20 Pin_20, J21 Pin_21, J22 Pin_22, J23 Pin_23, J24 Pin_24, J25 Pin_25, J26 Pin_26, J27 Pin_27, J28 Pin_28, J29 Pin_29, J30 Pin_30, J31 Pin_31, J32 Pin_32, J33 Pin_33, J34 Pin_34, J35 Pin_35, J36 Pin_36, J37 Pin_37, J38 Pin_38, J39 Pin_39, J40 Pin_40
part J pins: K1 Pin_1, K2 Pin_2, K3 Pin_3, K4 Pin_4, K5 Pin_5, K6 Pin_6, K7 Pin_7, K8 Pin_8, K9 Pin_9, K10 Pin_10, K11 Pin_11, K12 Pin_12, K13 Pin_13, K14 Pin_14, K15 Pin_15, K16 Pin_16, K17 Pin_17, K18 Pin_18, K19 Pin_19, K20 Pin_20, K21 Pin_21, K22 Pin_22, K23 Pin_23, K24 Pin_24, K25 Pin_25, K26 Pin_26, K27 Pin_27, K28 Pin_28, K29 Pin_29, K30 Pin_30, K31 Pin_31, K32 Pin_32, K33 Pin_33, K34 Pin_34, K35 Pin_35, K36 Pin_36, K37 Pin_37, K38 Pin_38, K39 Pin_39, K40 Pin_40

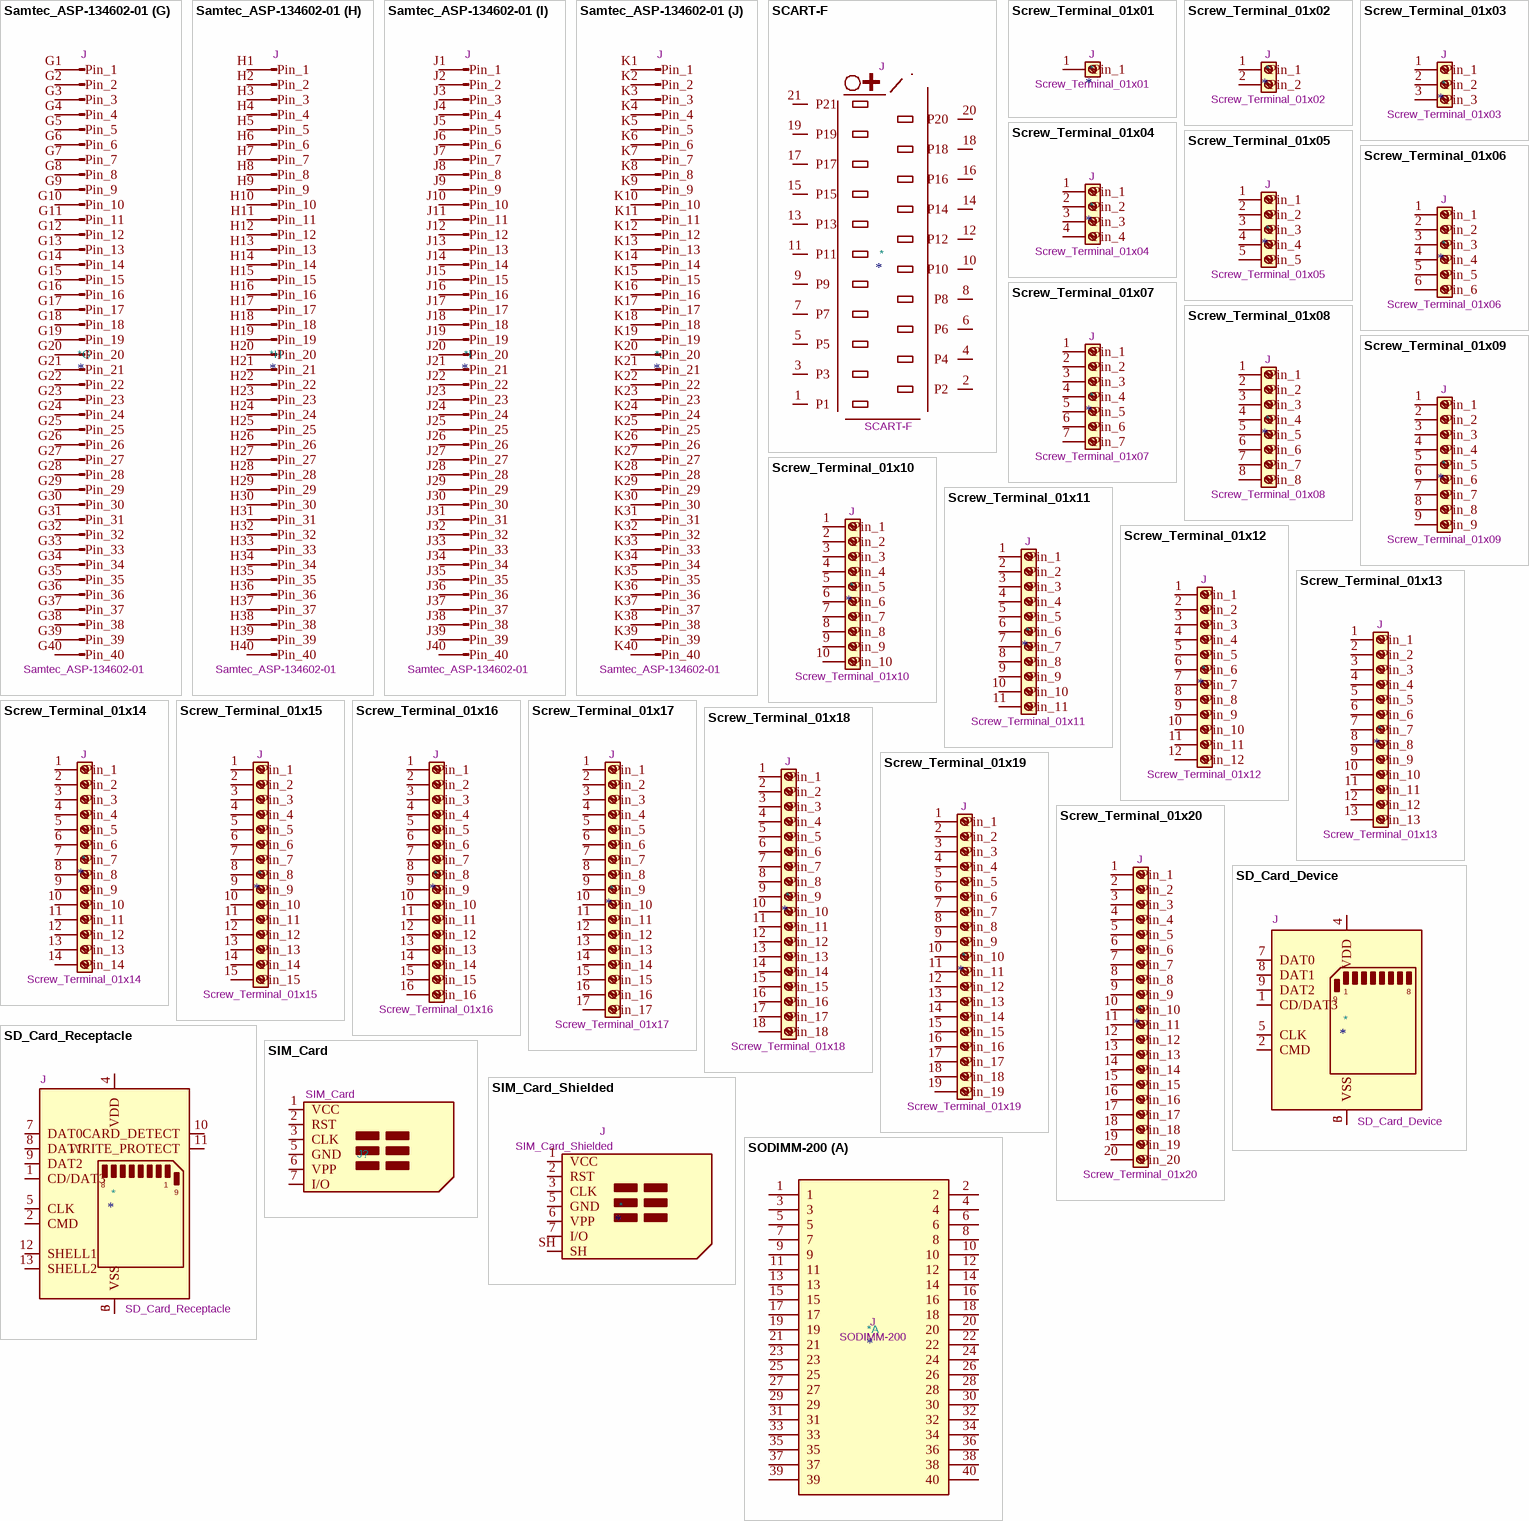
[diagram p15: symbols Samtec_ASP-134602-01 to SODIMM-200]

## Samtec_ASP-134602-01
designator *  value Samtec_ASP-134602-01  Reference: J
Connector array, 10x40, 1.27mm pitch, mezzanine-card, plug, gold finish, VITA 57.1 FMC, SMD; ki_keywords: FPGA Mezzanine Card FMC Terminal Connector Header; ki_fp_filters: *FMC*ASP*134602?01*10x40*P1.27mm* *FMC*ASP*134486?01*10x40*P1.27mm*; Datasheet: http://suddendocs.samtec.com/prints/asp-134602-01-mkt.pdf; Description_: Connector array, 10x40, 1.27mm pitch, mezzanine-card, plug, gold finish, VITA 57.1 FMC, SMD
part A pins: A1 Pin_1, A2 Pin_2, A3 Pin_3, A4 Pin_4, A5 Pin_5, A6 Pin_6, A7 Pin_7, A8 Pin_8, A9 Pin_9, A10 Pin_10, A11 Pin_11, A12 Pin_12, A13 Pin_13, A14 Pin_14, A15 Pin_15, A16 Pin_16, A17 Pin_17, A18 Pin_18, A19 Pin_19, A20 Pin_20, A21 Pin_21, A22 Pin_22, A23 Pin_23, A24 Pin_24, A25 Pin_25, A26 Pin_26, A27 Pin_27, A28 Pin_28, A29 Pin_29, A30 Pin_30, A31 Pin_31, A32 Pin_32, A33 Pin_33, A34 Pin_34, A35 Pin_35, A36 Pin_36, A37 Pin_37, A38 Pin_38, A39 Pin_39, A40 Pin_40
part B pins: B1 Pin_1, B2 Pin_2, B3 Pin_3, B4 Pin_4, B5 Pin_5, B6 Pin_6, B7 Pin_7, B8 Pin_8, B9 Pin_9, B10 Pin_10, B11 Pin_11, B12 Pin_12, B13 Pin_13, B14 Pin_14, B15 Pin_15, B16 Pin_16, B17 Pin_17, B18 Pin_18, B19 Pin_19, B20 Pin_20, B21 Pin_21, B22 Pin_22, B23 Pin_23, B24 Pin_24, B25 Pin_25, B26 Pin_26, B27 Pin_27, B28 Pin_28, B29 Pin_29, B30 Pin_30, B31 Pin_31, B32 Pin_32, B33 Pin_33, B34 Pin_34, B35 Pin_35, B36 Pin_36, B37 Pin_37, B38 Pin_38, B39 Pin_39, B40 Pin_40
part C pins: C1 Pin_1, C2 Pin_2, C3 Pin_3, C4 Pin_4, C5 Pin_5, C6 Pin_6, C7 Pin_7, C8 Pin_8, C9 Pin_9, C10 Pin_10, C11 Pin_11, C12 Pin_12, C13 Pin_13, C14 Pin_14, C15 Pin_15, C16 Pin_16, C17 Pin_17, C18 Pin_18, C19 Pin_19, C20 Pin_20, C21 Pin_21, C22 Pin_22, C23 Pin_23, C24 Pin_24, C25 Pin_25, C26 Pin_26, C27 Pin_27, C28 Pin_28, C29 Pin_29, C30 Pin_30, C31 Pin_31, C32 Pin_32, C33 Pin_33, C34 Pin_34, C35 Pin_35, C36 Pin_36, C37 Pin_37, C38 Pin_38, C39 Pin_39, C40 Pin_40
part D pins: D1 Pin_1, D2 Pin_2, D3 Pin_3, D4 Pin_4, D5 Pin_5, D6 Pin_6, D7 Pin_7, D8 Pin_8, D9 Pin_9, D10 Pin_10, D11 Pin_11, D12 Pin_12, D13 Pin_13, D14 Pin_14, D15 Pin_15, D16 Pin_16, D17 Pin_17, D18 Pin_18, D19 Pin_19, D20 Pin_20, D21 Pin_21, D22 Pin_22, D23 Pin_23, D24 Pin_24, D25 Pin_25, D26 Pin_26, D27 Pin_27, D28 Pin_28, D29 Pin_29, D30 Pin_30, D31 Pin_31, D32 Pin_32, D33 Pin_33, D34 Pin_34, D35 Pin_35, D36 Pin_36, D37 Pin_37, D38 Pin_38, D39 Pin_39, D40 Pin_40
part E pins: E1 Pin_1, E2 Pin_2, E3 Pin_3, E4 Pin_4, E5 Pin_5, E6 Pin_6, E7 Pin_7, E8 Pin_8, E9 Pin_9, E10 Pin_10, E11 Pin_11, E12 Pin_12, E13 Pin_13, E14 Pin_14, E15 Pin_15, E16 Pin_16, E17 Pin_17, E18 Pin_18, E19 Pin_19, E20 Pin_20, E21 Pin_21, E22 Pin_22, E23 Pin_23, E24 Pin_24, E25 Pin_25, E26 Pin_26, E27 Pin_27, E28 Pin_28, E29 Pin_29, E30 Pin_30, E31 Pin_31, E32 Pin_32, E33 Pin_33, E34 Pin_34, E35 Pin_35, E36 Pin_36, E37 Pin_37, E38 Pin_38, E39 Pin_39, E40 Pin_40
part F pins: F1 Pin_1, F2 Pin_2, F3 Pin_3, F4 Pin_4, F5 Pin_5, F6 Pin_6, F7 Pin_7, F8 Pin_8, F9 Pin_9, F10 Pin_10, F11 Pin_11, F12 Pin_12, F13 Pin_13, F14 Pin_14, F15 Pin_15, F16 Pin_16, F17 Pin_17, F18 Pin_18, F19 Pin_19, F20 Pin_20, F21 Pin_21, F22 Pin_22, F23 Pin_23, F24 Pin_24, F25 Pin_25, F26 Pin_26, F27 Pin_27, F28 Pin_28, F29 Pin_29, F30 Pin_30, F31 Pin_31, F32 Pin_32, F33 Pin_33, F34 Pin_34, F35 Pin_35, F36 Pin_36, F37 Pin_37, F38 Pin_38, F39 Pin_39, F40 Pin_40
part G pins: G1 Pin_1, G2 Pin_2, G3 Pin_3, G4 Pin_4, G5 Pin_5, G6 Pin_6, G7 Pin_7, G8 Pin_8, G9 Pin_9, G10 Pin_10, G11 Pin_11, G12 Pin_12, G13 Pin_13, G14 Pin_14, G15 Pin_15, G16 Pin_16, G17 Pin_17, G18 Pin_18, G19 Pin_19, G20 Pin_20, G21 Pin_21, G22 Pin_22, G23 Pin_23, G24 Pin_24, G25 Pin_25, G26 Pin_26, G27 Pin_27, G28 Pin_28, G29 Pin_29, G30 Pin_30, G31 Pin_31, G32 Pin_32, G33 Pin_33, G34 Pin_34, G35 Pin_35, G36 Pin_36, G37 Pin_37, G38 Pin_38, G39 Pin_39, G40 Pin_40
part H pins: H1 Pin_1, H2 Pin_2, H3 Pin_3, H4 Pin_4, H5 Pin_5, H6 Pin_6, H7 Pin_7, H8 Pin_8, H9 Pin_9, H10 Pin_10, H11 Pin_11, H12 Pin_12, H13 Pin_13, H14 Pin_14, H15 Pin_15, H16 Pin_16, H17 Pin_17, H18 Pin_18, H19 Pin_19, H20 Pin_20, H21 Pin_21, H22 Pin_22, H23 Pin_23, H24 Pin_24, H25 Pin_25, H26 Pin_26, H27 Pin_27, H28 Pin_28, H29 Pin_29, H30 Pin_30, H31 Pin_31, H32 Pin_32, H33 Pin_33, H34 Pin_34, H35 Pin_35, H36 Pin_36, H37 Pin_37, H38 Pin_38, H39 Pin_39, H40 Pin_40
part I pins: J1 Pin_1, J2 Pin_2, J3 Pin_3, J4 Pin_4, J5 Pin_5, J6 Pin_6, J7 Pin_7, J8 Pin_8, J9 Pin_9, J10 Pin_10, J11 Pin_11, J12 Pin_12, J13 Pin_13, J14 Pin_14, J15 Pin_15, J16 Pin_16, J17 Pin_17, J18 Pin_18, J19 Pin_19, J20 Pin_20, J21 Pin_21, J22 Pin_22, J23 Pin_23, J24 Pin_24, J25 Pin_25, J26 Pin_26, J27 Pin_27, J28 Pin_28, J29 Pin_29, J30 Pin_30, J31 Pin_31, J32 Pin_32, J33 Pin_33, J34 Pin_34, J35 Pin_35, J36 Pin_36, J37 Pin_37, J38 Pin_38, J39 Pin_39, J40 Pin_40
part J pins: K1 Pin_1, K2 Pin_2, K3 Pin_3, K4 Pin_4, K5 Pin_5, K6 Pin_6, K7 Pin_7, K8 Pin_8, K9 Pin_9, K10 Pin_10, K11 Pin_11, K12 Pin_12, K13 Pin_13, K14 Pin_14, K15 Pin_15, K16 Pin_16, K17 Pin_17, K18 Pin_18, K19 Pin_19, K20 Pin_20, K21 Pin_21, K22 Pin_22, K23 Pin_23, K24 Pin_24, K25 Pin_25, K26 Pin_26, K27 Pin_27, K28 Pin_28, K29 Pin_29, K30 Pin_30, K31 Pin_31, K32 Pin_32, K33 Pin_33, K34 Pin_34, K35 Pin_35, K36 Pin_36, K37 Pin_37, K38 Pin_38, K39 Pin_39, K40 Pin_40

## SCART-F
designator *  value SCART-F  Reference: J
Prise Peritel; ki_keywords: connector; Datasheet: ~; Description_: Prise Peritel
pins: 1 P1, 2 P2, 3 P3, 4 P4, 5 P5, 6 P6, 7 P7, 8 P8, 9 P9, 10 P10, 11 P11, 12 P12, 13 P13, 14 P14, 15 P15, 16 P16, 17 P17, 18 P18, 19 P19, 20 P20, 21 P21
text: +

## Screw_Terminal_01x01
designator *  value Screw_Terminal_01x01  Reference: J
Generic screw terminal, single row, 01x01, script generated (kicad-library-utils/schlib/autogen/connector/); ki_fp_filters: TerminalBlock*:*; Datasheet: ~; Description_: Generic screw terminal, single row, 01x01, script generated (kicad-library-utils/schlib/autogen/connector/); ki_keywords: screw terminal
pins: 1 Pin_1

## Screw_Terminal_01x02
designator *  value Screw_Terminal_01x02  Reference: J
Generic screw terminal, single row, 01x02, script generated (kicad-library-utils/schlib/autogen/connector/); ki_fp_filters: TerminalBlock*:*; Datasheet: ~; Description_: Generic screw terminal, single row, 01x02, script generated (kicad-library-utils/schlib/autogen/connector/); ki_keywords: screw terminal
pins: 1 Pin_1, 2 Pin_2

## Screw_Terminal_01x03
designator *  value Screw_Terminal_01x03  Reference: J
Generic screw terminal, single row, 01x03, script generated (kicad-library-utils/schlib/autogen/connector/); ki_fp_filters: TerminalBlock*:*; Datasheet: ~; Description_: Generic screw terminal, single row, 01x03, script generated (kicad-library-utils/schlib/autogen/connector/); ki_keywords: screw terminal
pins: 1 Pin_1, 2 Pin_2, 3 Pin_3

## Screw_Terminal_01x04
designator *  value Screw_Terminal_01x04  Reference: J
Generic screw terminal, single row, 01x04, script generated (kicad-library-utils/schlib/autogen/connector/); ki_fp_filters: TerminalBlock*:*; Datasheet: ~; Description_: Generic screw terminal, single row, 01x04, script generated (kicad-library-utils/schlib/autogen/connector/); ki_keywords: screw terminal
pins: 1 Pin_1, 2 Pin_2, 3 Pin_3, 4 Pin_4

## Screw_Terminal_01x05
designator *  value Screw_Terminal_01x05  Reference: J
Generic screw terminal, single row, 01x05, script generated (kicad-library-utils/schlib/autogen/connector/); ki_fp_filters: TerminalBlock*:*; Datasheet: ~; Description_: Generic screw terminal, single row, 01x05, script generated (kicad-library-utils/schlib/autogen/connector/); ki_keywords: screw terminal
pins: 1 Pin_1, 2 Pin_2, 3 Pin_3, 4 Pin_4, 5 Pin_5

## Screw_Terminal_01x06
designator *  value Screw_Terminal_01x06  Reference: J
Generic screw terminal, single row, 01x06, script generated (kicad-library-utils/schlib/autogen/connector/); ki_fp_filters: TerminalBlock*:*; Datasheet: ~; Description_: Generic screw terminal, single row, 01x06, script generated (kicad-library-utils/schlib/autogen/connector/); ki_keywords: screw terminal
pins: 1 Pin_1, 2 Pin_2, 3 Pin_3, 4 Pin_4, 5 Pin_5, 6 Pin_6

## Screw_Terminal_01x07
designator *  value Screw_Terminal_01x07  Reference: J
Generic screw terminal, single row, 01x07, script generated (kicad-library-utils/schlib/autogen/connector/); ki_fp_filters: TerminalBlock*:*; Datasheet: ~; Description_: Generic screw terminal, single row, 01x07, script generated (kicad-library-utils/schlib/autogen/connector/); ki_keywords: screw terminal
pins: 1 Pin_1, 2 Pin_2, 3 Pin_3, 4 Pin_4, 5 Pin_5, 6 Pin_6, 7 Pin_7

## Screw_Terminal_01x08
designator *  value Screw_Terminal_01x08  Reference: J
Generic screw terminal, single row, 01x08, script generated (kicad-library-utils/schlib/autogen/connector/); ki_fp_filters: TerminalBlock*:*; Datasheet: ~; Description_: Generic screw terminal, single row, 01x08, script generated (kicad-library-utils/schlib/autogen/connector/); ki_keywords: screw terminal
pins: 1 Pin_1, 2 Pin_2, 3 Pin_3, 4 Pin_4, 5 Pin_5, 6 Pin_6, 7 Pin_7, 8 Pin_8

## Screw_Terminal_01x09
designator *  value Screw_Terminal_01x09  Reference: J
Generic screw terminal, single row, 01x09, script generated (kicad-library-utils/schlib/autogen/connector/); ki_fp_filters: TerminalBlock*:*; Datasheet: ~; Description_: Generic screw terminal, single row, 01x09, script generated (kicad-library-utils/schlib/autogen/connector/); ki_keywords: screw terminal
pins: 1 Pin_1, 2 Pin_2, 3 Pin_3, 4 Pin_4, 5 Pin_5, 6 Pin_6, 7 Pin_7, 8 Pin_8, 9 Pin_9

## Screw_Terminal_01x10
designator *  value Screw_Terminal_01x10  Reference: J
Generic screw terminal, single row, 01x10, script generated (kicad-library-utils/schlib/autogen/connector/); ki_fp_filters: TerminalBlock*:*; Datasheet: ~; Description_: Generic screw terminal, single row, 01x10, script generated (kicad-library-utils/schlib/autogen/connector/); ki_keywords: screw terminal
pins: 1 Pin_1, 2 Pin_2, 3 Pin_3, 4 Pin_4, 5 Pin_5, 6 Pin_6, 7 Pin_7, 8 Pin_8, 9 Pin_9, 10 Pin_10

## Screw_Terminal_01x11
designator *  value Screw_Terminal_01x11  Reference: J
Generic screw terminal, single row, 01x11, script generated (kicad-library-utils/schlib/autogen/connector/); ki_fp_filters: TerminalBlock*:*; Datasheet: ~; Description_: Generic screw terminal, single row, 01x11, script generated (kicad-library-utils/schlib/autogen/connector/); ki_keywords: screw terminal
pins: 1 Pin_1, 2 Pin_2, 3 Pin_3, 4 Pin_4, 5 Pin_5, 6 Pin_6, 7 Pin_7, 8 Pin_8, 9 Pin_9, 10 Pin_10, 11 Pin_11

## Screw_Terminal_01x12
designator *  value Screw_Terminal_01x12  Reference: J
Generic screw terminal, single row, 01x12, script generated (kicad-library-utils/schlib/autogen/connector/); ki_fp_filters: TerminalBlock*:*; Datasheet: ~; Description_: Generic screw terminal, single row, 01x12, script generated (kicad-library-utils/schlib/autogen/connector/); ki_keywords: screw terminal
pins: 1 Pin_1, 2 Pin_2, 3 Pin_3, 4 Pin_4, 5 Pin_5, 6 Pin_6, 7 Pin_7, 8 Pin_8, 9 Pin_9, 10 Pin_10, 11 Pin_11, 12 Pin_12

## Screw_Terminal_01x13
designator *  value Screw_Terminal_01x13  Reference: J
Generic screw terminal, single row, 01x13, script generated (kicad-library-utils/schlib/autogen/connector/); ki_fp_filters: TerminalBlock*:*; Datasheet: ~; Description_: Generic screw terminal, single row, 01x13, script generated (kicad-library-utils/schlib/autogen/connector/); ki_keywords: screw terminal
pins: 1 Pin_1, 2 Pin_2, 3 Pin_3, 4 Pin_4, 5 Pin_5, 6 Pin_6, 7 Pin_7, 8 Pin_8, 9 Pin_9, 10 Pin_10, 11 Pin_11, 12 Pin_12, 13 Pin_13

## Screw_Terminal_01x14
designator *  value Screw_Terminal_01x14  Reference: J
Generic screw terminal, single row, 01x14, script generated (kicad-library-utils/schlib/autogen/connector/); ki_fp_filters: TerminalBlock*:*; Datasheet: ~; Description_: Generic screw terminal, single row, 01x14, script generated (kicad-library-utils/schlib/autogen/connector/); ki_keywords: screw terminal
pins: 1 Pin_1, 2 Pin_2, 3 Pin_3, 4 Pin_4, 5 Pin_5, 6 Pin_6, 7 Pin_7, 8 Pin_8, 9 Pin_9, 10 Pin_10, 11 Pin_11, 12 Pin_12, 13 Pin_13, 14 Pin_14

## Screw_Terminal_01x15
designator *  value Screw_Terminal_01x15  Reference: J
Generic screw terminal, single row, 01x15, script generated (kicad-library-utils/schlib/autogen/connector/); ki_fp_filters: TerminalBlock*:*; Datasheet: ~; Description_: Generic screw terminal, single row, 01x15, script generated (kicad-library-utils/schlib/autogen/connector/); ki_keywords: screw terminal
pins: 1 Pin_1, 2 Pin_2, 3 Pin_3, 4 Pin_4, 5 Pin_5, 6 Pin_6, 7 Pin_7, 8 Pin_8, 9 Pin_9, 10 Pin_10, 11 Pin_11, 12 Pin_12, 13 Pin_13, 14 Pin_14, 15 Pin_15

## Screw_Terminal_01x16
designator *  value Screw_Terminal_01x16  Reference: J
Generic screw terminal, single row, 01x16, script generated (kicad-library-utils/schlib/autogen/connector/); ki_fp_filters: TerminalBlock*:*; Datasheet: ~; Description_: Generic screw terminal, single row, 01x16, script generated (kicad-library-utils/schlib/autogen/connector/); ki_keywords: screw terminal
footprint PCBComponent_1
pins: 1 Pin_1, 2 Pin_2, 3 Pin_3, 4 Pin_4, 5 Pin_5, 6 Pin_6, 7 Pin_7, 8 Pin_8, 9 Pin_9, 10 Pin_10, 11 Pin_11, 12 Pin_12, 13 Pin_13, 14 Pin_14, 15 Pin_15, 16 Pin_16